# Altium integrated library Altera Cyclone.IntLib: 144 symbols (part 15 of 21)
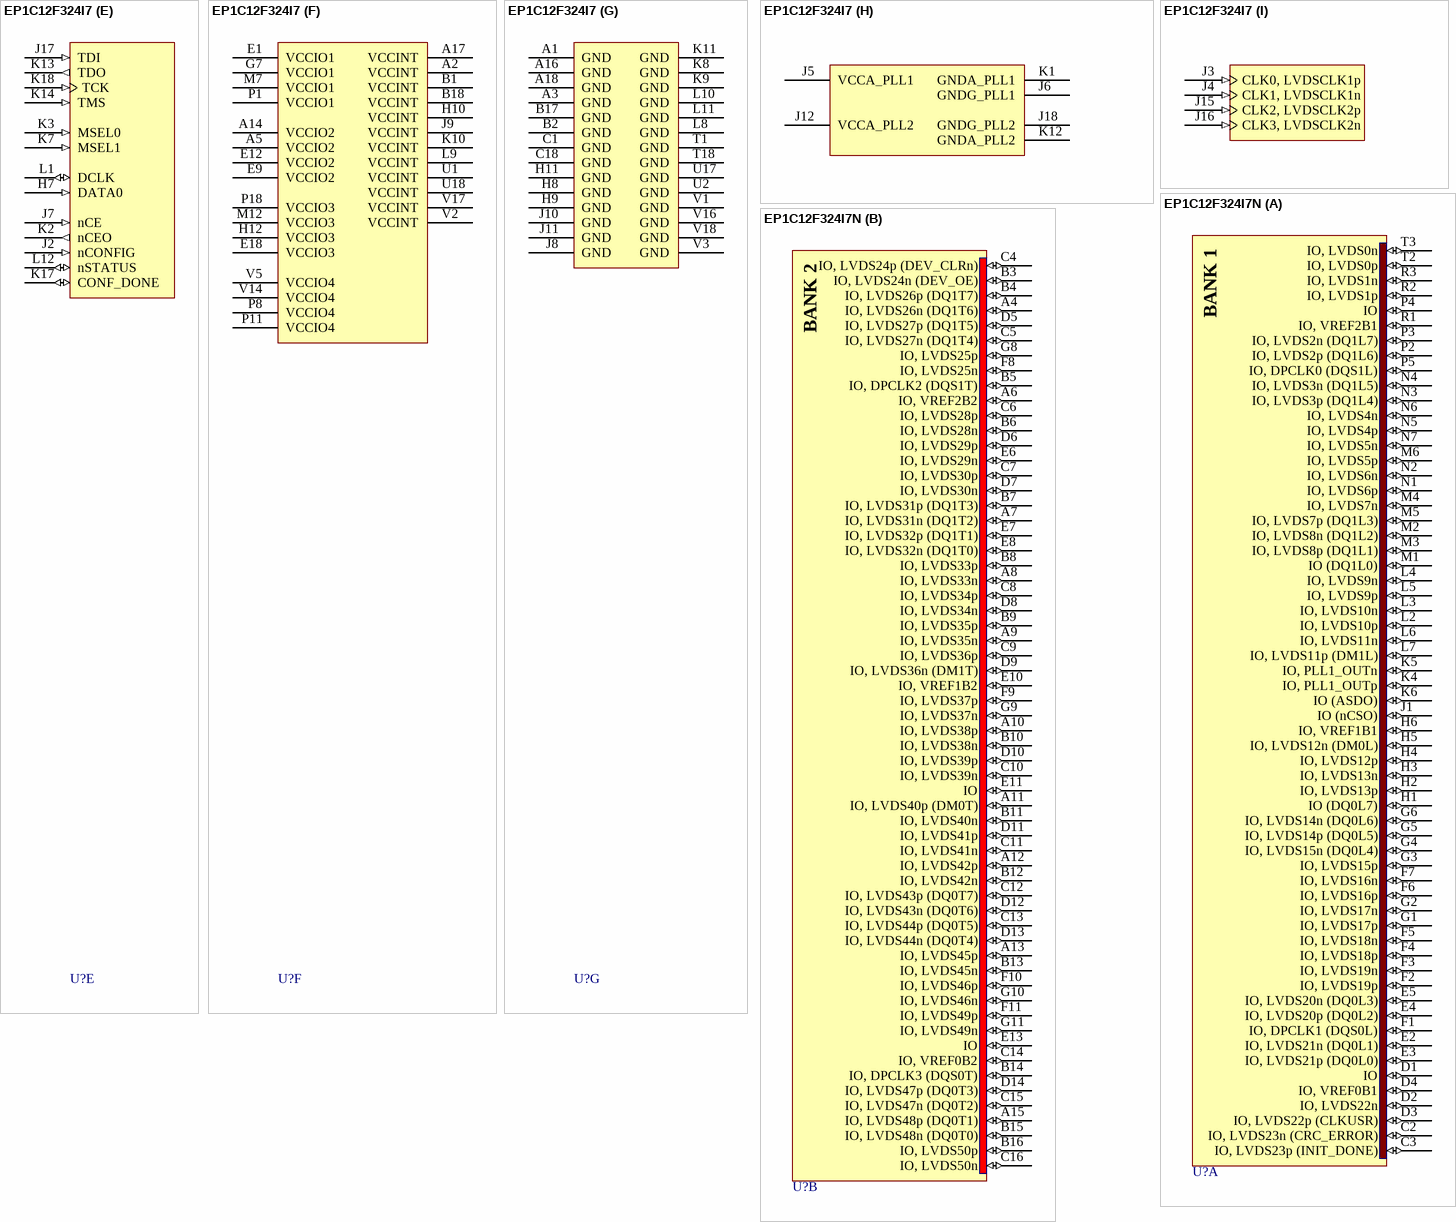
[diagram p167: symbols EP1C12F324I7 to EP1C12F324I7N]

## EP1C12F324I7
designator U?
Cyclone Family, 1.5V FPGA, 249 I/O Pins, 2 x PLLs, Industrial Grade, Speed Grade 7; DatasheetVersion: ver2.4, May-2008; PackageVersion: ver16.0, Dec-2009; PackageReference: FBGA324; PackageDescription: 324-Ball FineLine Ball Grid Array (FBGA324) - Wire Bond; Code_JEDEC: MS-034-AAG-1; Code_IPC: BGA100P18X18-324; ComponentLink1Description: Manufacturer URL; ComponentLink1URL: http://www.altera.com/; ComponentLink2Description: Handbook; ComponentLink2URL: http://www.altera.com/literature/hb/cyc/cyc_c5v1.pdf; ComponentLink3Description: Package Specification; ComponentLink3URL: http://www.altera.com/literature/ds/dspkg.pdf
footprint FBGA324 (BGA, 324-Leads, Body 19x19mm, Pitch 1mm)
part A pins: C2 IO, LVDS23n (CRC_ERROR) (io), C3 IO, LVDS23p (INIT_DONE) (io), D1 IO (io), D2 IO, LVDS22n (io), D3 IO, LVDS22p (CLKUSR) (io), D4 IO, VREF0B1 (io), E2 IO, LVDS21n (DQ0L1) (io), E3 IO, LVDS21p (DQ0L0) (io), E4 IO, LVDS20p (DQ0L2) (io), E5 IO, LVDS20n (DQ0L3) (io), F1 IO, DPCLK1 (DQS0L) (io), F2 IO, LVDS19p (io), F3 IO, LVDS19n (io), F4 IO, LVDS18p (io), F5 IO, LVDS18n (io), F6 IO, LVDS16p (io), F7 IO, LVDS16n (io), G1 IO, LVDS17p (io), G2 IO, LVDS17n (io), G3 IO, LVDS15p (io), G4 IO, LVDS15n (DQ0L4) (io), G5 IO, LVDS14p (DQ0L5) (io), G6 IO, LVDS14n (DQ0L6) (io), H1 IO (DQ0L7) (io), H2 IO, LVDS13p (io), H3 IO, LVDS13n (io), H4 IO, LVDS12p (io), H5 IO, LVDS12n (DM0L) (io), H6 IO, VREF1B1 (io), J1 IO (nCSO) (io), K4 IO, PLL1_OUTp (io), K5 IO, PLL1_OUTn (io), K6 IO (ASDO) (io), L2 IO, LVDS10p (io), L3 IO, LVDS10n (io), L4 IO, LVDS9n (io), L5 IO, LVDS9p (io), L6 IO, LVDS11n (io), L7 IO, LVDS11p (DM1L) (io), M1 IO (DQ1L0) (io), M2 IO, LVDS8n (DQ1L2) (io), M3 IO, LVDS8p (DQ1L1) (io), M4 IO, LVDS7n (io), M5 IO, LVDS7p (DQ1L3) (io), M6 IO, LVDS5p (io), N1 IO, LVDS6p (io), N2 IO, LVDS6n (io), N3 IO, LVDS3p (DQ1L4) (io), N4 IO, LVDS3n (DQ1L5) (io), N5 IO, LVDS4p (io), N6 IO, LVDS4n (io), N7 IO, LVDS5n (io), P2 IO, LVDS2p (DQ1L6) (io), P3 IO, LVDS2n (DQ1L7) (io), P4 IO (io), P5 IO, DPCLK0 (DQS1L) (io), R1 IO, VREF2B1 (io), R2 IO, LVDS1p (io), R3 IO, LVDS1n (io), T2 IO, LVDS0p (io), T3 IO, LVDS0n (io)
part B pins: A4 IO, LVDS26n (DQ1T6) (io), A6 IO, VREF2B2 (io), A7 IO, LVDS31n (DQ1T2) (io), A8 IO, LVDS33n (io), A9 IO, LVDS35n (io), A10 IO, LVDS38p (io), A11 IO, LVDS40p (DM0T) (io), A12 IO, LVDS42p (io), A13 IO, LVDS45p (io), A15 IO, LVDS48p (DQ0T1) (io), B3 IO, LVDS24n (DEV_OE) (io), B4 IO, LVDS26p (DQ1T7) (io), B5 IO, DPCLK2 (DQS1T) (io), B6 IO, LVDS28n (io), B7 IO, LVDS31p (DQ1T3) (io), B8 IO, LVDS33p (io), B9 IO, LVDS35p (io), B10 IO, LVDS38n (io), B11 IO, LVDS40n (io), B12 IO, LVDS42n (io), B13 IO, LVDS45n (io), B14 IO, DPCLK3 (DQS0T) (io), B15 IO, LVDS48n (DQ0T0) (io), B16 IO, LVDS50p (io), C4 IO, LVDS24p (DEV_CLRn) (io), C5 IO, LVDS27n (DQ1T4) (io), C6 IO, LVDS28p (io), C7 IO, LVDS30p (io), C8 IO, LVDS34p (io), C9 IO, LVDS36p (io), C10 IO, LVDS39n (io), C11 IO, LVDS41n (io), C12 IO, LVDS43p (DQ0T7) (io), C13 IO, LVDS44p (DQ0T5) (io), C14 IO, VREF0B2 (io), C15 IO, LVDS47n (DQ0T2) (io), C16 IO, LVDS50n (io), D5 IO, LVDS27p (DQ1T5) (io), D6 IO, LVDS29p (io), D7 IO, LVDS30n (io), D8 IO, LVDS34n (io), D9 IO, LVDS36n (DM1T) (io), D10 IO, LVDS39p (io), D11 IO, LVDS41p (io), D12 IO, LVDS43n (DQ0T6) (io), D13 IO, LVDS44n (DQ0T4) (io), D14 IO, LVDS47p (DQ0T3) (io), E6 IO, LVDS29n (io), E7 IO, LVDS32p (DQ1T1) (io), E8 IO, LVDS32n (DQ1T0) (io), E10 IO, VREF1B2 (io), E11 IO (io), E13 IO (io), F8 IO, LVDS25n (io), F9 IO, LVDS37p (io), F10 IO, LVDS46p (io), F11 IO, LVDS49p (io), G8 IO, LVDS25p (io), G9 IO, LVDS37n (io), G10 IO, LVDS46n (io), G11 IO, LVDS49n (io)
part C pins: C17 IO, LVDS51n (io), D15 IO, LVDS52p (io), D16 IO, LVDS52n (io), D17 IO, LVDS51p (io), D18 IO (DQ0R0) (io), E14 IO, VREF0B3 (io), E15 IO, LVDS53p (DQ0R1) (io), E16 IO, LVDS53n (DQ0R2) (io), E17 IO, DPCLK4 (DQS0R) (io), F12 IO, LVDS57p (io), F13 IO, LVDS55n (io), F14 IO, LVDS55p (io), F15 IO, LVDS54p (DQ0R3) (io), F16 IO, LVDS54n (io), F17 IO, LVDS56p (io), F18 IO, LVDS56n (io), G12 IO, LVDS57n (io), G13 IO, LVDS59n (DQ0R4) (io), G14 IO, LVDS59p (io), G15 IO, LVDS58n (io), G16 IO, LVDS58p (io), G17 IO, LVDS60p (DQ0R5) (io), G18 IO, LVDS60n (DQ0R6) (io), H13 IO, LVDS63p (DM0R) (io), H14 IO, LVDS62n (io), H15 IO, LVDS62p (io), H16 IO, LVDS61n (io), H17 IO, LVDS61p (io), H18 IO (DQ0R7) (io), J13 IO, LVDS63n (io), J14 IO, VREF1B3 (io), K15 IO, PLL2_OUTp (io), K16 IO, PLL2_OUTn (io), L13 IO, LVDS65p (io), L14 IO (io), L15 IO, LVDS64p (io), L16 IO, LVDS64n (DM1R) (io), L17 IO, LVDS66p (io), L18 IO, LVDS66n (io), M13 IO, LVDS65n (io), M14 IO, LVDS67n (DQ1R2) (io), M15 IO, LVDS67p (DQ1R1) (io), M16 IO (DQ1R0) (io), M17 IO, LVDS68p (DQ1R3) (io), M18 IO, LVDS68n (io), N12 IO, LVDS70p (io), N13 IO, LVDS70n (io), N14 IO, LVDS72p (DQ1R4) (io), N15 IO, LVDS69p (io), N16 IO, LVDS69n (io), N17 IO, LVDS71p (io), N18 IO, LVDS71n (io), P14 IO, LVDS72n (DQ1R5) (io), P15 IO, DPCLK5 (DQS1R) (io), P16 IO, VREF2B3 (io), P17 IO (DQ1R6) (io), R15 IO, LVDS73n (DQ1R7) (io), R16 IO, LVDS73p (io), R17 IO, LVDS74n (io), R18 IO, LVDS74p (io), T16 IO, LVDS75n (io), T17 IO, LVDS75p (io)
part D pins: M8 IO, LVDS101p (io), M9 IO, LVDS89p (io), M10 IO, LVDS80n (io), M11 IO, LVDS77n (io), N8 IO, LVDS101n (io), N9 IO, LVDS89n (io), N10 IO, LVDS80p (io), N11 IO, LVDS77p (io), P6 IO, LVDS97p (DQ1B4) (io), P7 IO, LVDS97n (io), P9 IO, VREF1B4 (io), P10 IO (io), P12 IO (io), P13 IO, VREF0B4 (io), R4 IO, DPCLK7 (DQS1B) (io), R5 IO, VREF2B4 (io), R6 IO, LVDS96n (io), R7 IO, LVDS94n (DQ1B0) (io), R8 IO, LVDS92n (io), R9 IO, LVDS90p (DM1B) (io), R10 IO, LVDS87n (io), R11 IO, LVDS86p (io), R12 IO, LVDS83n (DQ0B6) (io), R13 IO, LVDS81n (io), R14 IO, LVDS79n (DQ0B2) (io), T4 IO, LVDS100p (io), T5 IO, LVDS99p (DQ1B7) (io), T6 IO, LVDS96p (io), T7 IO, LVDS94p (DQ1B1) (io), T8 IO, LVDS92p (io), T9 IO, LVDS90n (io), T10 IO, LVDS87p (io), T11 IO, LVDS86n (io), T12 IO, LVDS83p (DQ0B7) (io), T13 IO, LVDS81p (io), T14 IO, LVDS79p (DQ0B3) (io), T15 IO, LVDS76n (io), U3 IO, LVDS102p (io), U4 IO, LVDS100n (io), U5 IO, LVDS99n (DQ1B6) (io), U6 IO, LVDS98n (DQ1B5) (io), U7 IO, LVDS95p (DQ1B3) (io), U8 IO, LVDS93p (io), U9 IO, LVDS91p (io), U10 IO, LVDS88p (io), U11 IO, LVDS85p (DM0B) (io), U12 IO, LVDS84n (io), U13 IO, LVDS82n (DQ0B4) (io), U14 IO, DPCLK6 (DQS0B) (io), U15 IO, LVDS78n (DQ0B0) (io), U16 IO, LVDS76p (io), V4 IO, LVDS102n (io), V6 IO, LVDS98p (io), V7 IO, LVDS95n (DQ1B2) (io), V8 IO, LVDS93n (io), V9 IO, LVDS91n (io), V10 IO, LVDS88n (io), V11 IO, LVDS85n (io), V12 IO, LVDS84p (io), V13 IO, LVDS82p (DQ0B5) (io), V15 IO, LVDS78p (DQ0B1) (io)
part E pins: H7 DATA0 (in), J2 nCONFIG (in), J7 nCE (in), J17 TDI (in), K2 nCEO (out), K3 MSEL0 (in), K7 MSEL1 (in), K13 TDO (out), K14 TMS (in), K17 CONF_DONE (io), K18 TCK (in), L1 DCLK (io), L12 nSTATUS (io)
part F pins: A2 VCCINT (power), A5 VCCIO2 (power), A14 VCCIO2 (power), A17 VCCINT (power), B1 VCCINT (power), B18 VCCINT (power), E1 VCCIO1 (power), E9 VCCIO2 (power), E12 VCCIO2 (power), E18 VCCIO3 (power), G7 VCCIO1 (power), H10 VCCINT (power), H12 VCCIO3 (power), J9 VCCINT (power), K10 VCCINT (power), L9 VCCINT (power), M7 VCCIO1 (power), M12 VCCIO3 (power), P1 VCCIO1 (power), P8 VCCIO4 (power), P11 VCCIO4 (power), P18 VCCIO3 (power), U1 VCCINT (power), U18 VCCINT (power), V2 VCCINT (power), V5 VCCIO4 (power), V14 VCCIO4 (power), V17 VCCINT (power)
part G pins: A1 GND (power), A3 GND (power), A16 GND (power), A18 GND (power), B2 GND (power), B17 GND (power), C1 GND (power), C18 GND (power), H8 GND (power), H9 GND (power), H11 GND (power), J8 GND (power), J10 GND (power), J11 GND (power), K8 GND (power), K9 GND (power), K11 GND (power), L8 GND (power), L10 GND (power), L11 GND (power), T1 GND (power), T18 GND (power), U2 GND (power), U17 GND (power), V1 GND (power), V3 GND (power), V16 GND (power), V18 GND (power)
part H pins: J5 VCCA_PLL1 (power), J6 GNDG_PLL1 (power), J12 VCCA_PLL2 (power), J18 GNDG_PLL2 (power), K1 GNDA_PLL1 (power), K12 GNDA_PLL2 (power)
part I pins: J3 CLK0, LVDSCLK1p (in), J4 CLK1, LVDSCLK1n (in), J15 CLK2, LVDSCLK2p (in), J16 CLK3, LVDSCLK2n (in)
part A text: BANK 1
part B text: BANK 2
part C text: BANK 3
part D text: BANK 4

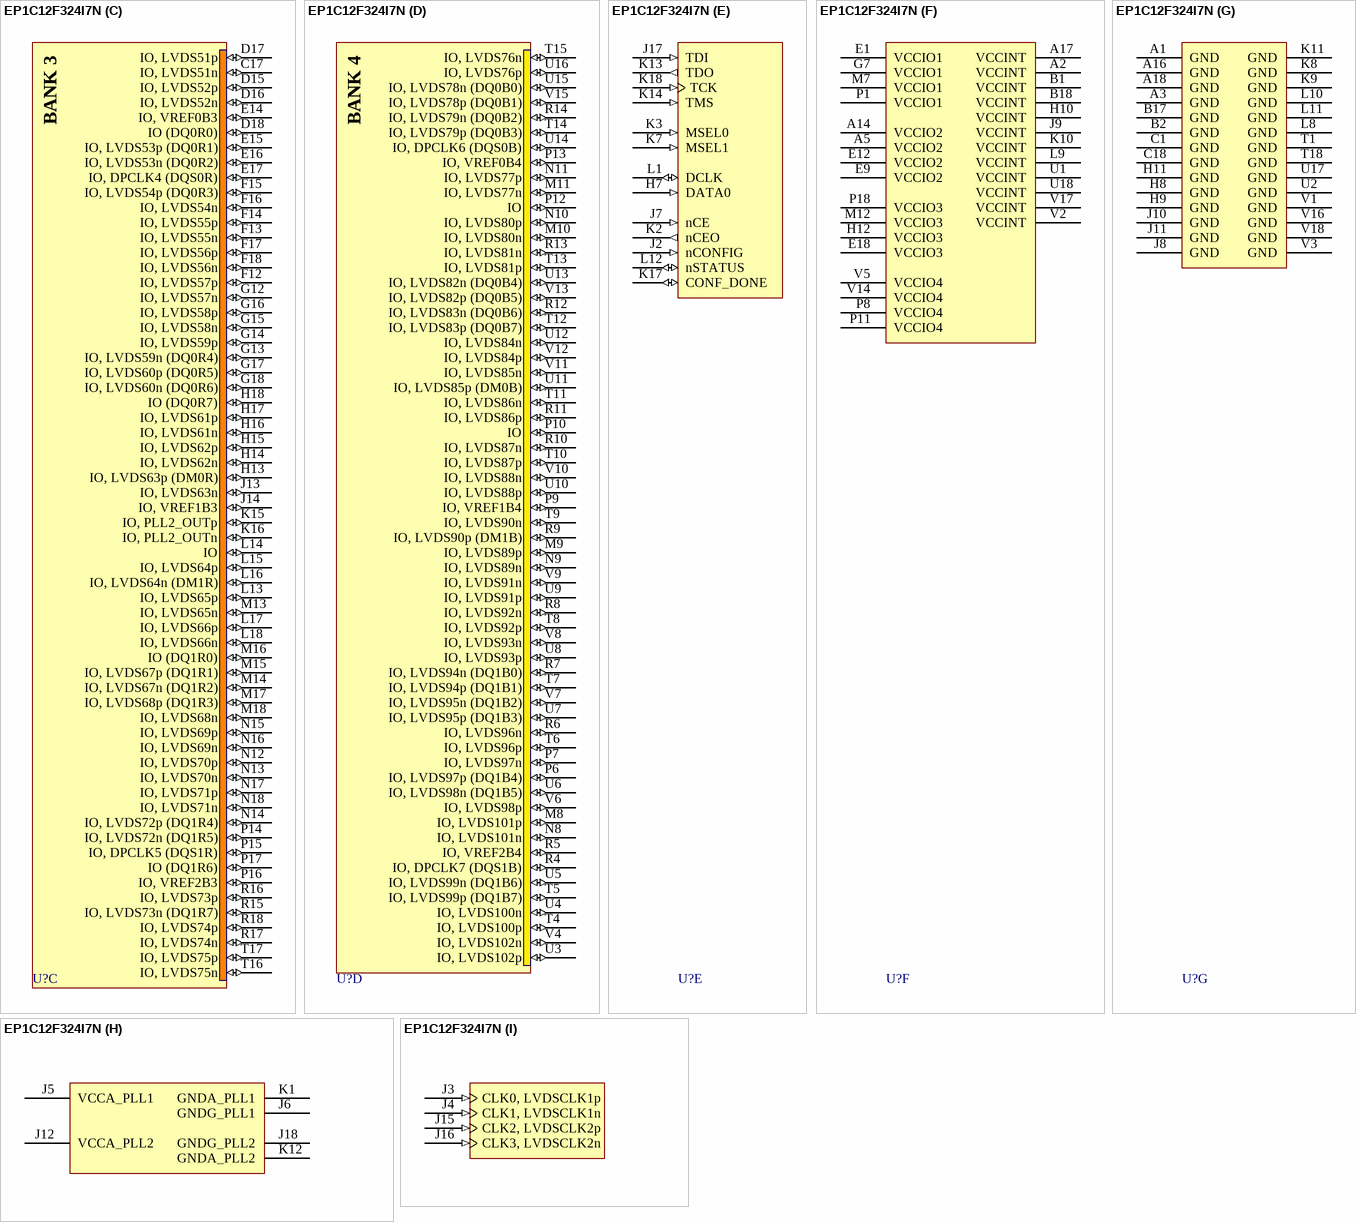
[diagram p105: symbol EP1C12F324I7N]

## EP1C12F324I7N
designator U?
Cyclone Family, 1.5V FPGA, 249 I/O Pins, 2 x PLLs, Industrial Grade, Speed Grade 7, Pb-Free; DatasheetVersion: ver2.4, May-2008; PackageVersion: ver16.0, Dec-2009; PackageReference: FBGA324; PackageDescription: 324-Ball FineLine Ball Grid Array (FBGA324) - Wire Bond; Code_JEDEC: MS-034-AAG-1; Code_IPC: BGA100P18X18-324; ComponentLink1Description: Manufacturer URL; ComponentLink1URL: http://www.altera.com/; ComponentLink2Description: Handbook; ComponentLink2URL: http://www.altera.com/literature/hb/cyc/cyc_c5v1.pdf; ComponentLink3Description: Package Specification; ComponentLink3URL: http://www.altera.com/literature/ds/dspkg.pdf
footprint FBGA324 (BGA, 324-Leads, Body 19x19mm, Pitch 1mm)
part A pins: C2 IO, LVDS23n (CRC_ERROR) (io), C3 IO, LVDS23p (INIT_DONE) (io), D1 IO (io), D2 IO, LVDS22n (io), D3 IO, LVDS22p (CLKUSR) (io), D4 IO, VREF0B1 (io), E2 IO, LVDS21n (DQ0L1) (io), E3 IO, LVDS21p (DQ0L0) (io), E4 IO, LVDS20p (DQ0L2) (io), E5 IO, LVDS20n (DQ0L3) (io), F1 IO, DPCLK1 (DQS0L) (io), F2 IO, LVDS19p (io), F3 IO, LVDS19n (io), F4 IO, LVDS18p (io), F5 IO, LVDS18n (io), F6 IO, LVDS16p (io), F7 IO, LVDS16n (io), G1 IO, LVDS17p (io), G2 IO, LVDS17n (io), G3 IO, LVDS15p (io), G4 IO, LVDS15n (DQ0L4) (io), G5 IO, LVDS14p (DQ0L5) (io), G6 IO, LVDS14n (DQ0L6) (io), H1 IO (DQ0L7) (io), H2 IO, LVDS13p (io), H3 IO, LVDS13n (io), H4 IO, LVDS12p (io), H5 IO, LVDS12n (DM0L) (io), H6 IO, VREF1B1 (io), J1 IO (nCSO) (io), K4 IO, PLL1_OUTp (io), K5 IO, PLL1_OUTn (io), K6 IO (ASDO) (io), L2 IO, LVDS10p (io), L3 IO, LVDS10n (io), L4 IO, LVDS9n (io), L5 IO, LVDS9p (io), L6 IO, LVDS11n (io), L7 IO, LVDS11p (DM1L) (io), M1 IO (DQ1L0) (io), M2 IO, LVDS8n (DQ1L2) (io), M3 IO, LVDS8p (DQ1L1) (io), M4 IO, LVDS7n (io), M5 IO, LVDS7p (DQ1L3) (io), M6 IO, LVDS5p (io), N1 IO, LVDS6p (io), N2 IO, LVDS6n (io), N3 IO, LVDS3p (DQ1L4) (io), N4 IO, LVDS3n (DQ1L5) (io), N5 IO, LVDS4p (io), N6 IO, LVDS4n (io), N7 IO, LVDS5n (io), P2 IO, LVDS2p (DQ1L6) (io), P3 IO, LVDS2n (DQ1L7) (io), P4 IO (io), P5 IO, DPCLK0 (DQS1L) (io), R1 IO, VREF2B1 (io), R2 IO, LVDS1p (io), R3 IO, LVDS1n (io), T2 IO, LVDS0p (io), T3 IO, LVDS0n (io)
part B pins: A4 IO, LVDS26n (DQ1T6) (io), A6 IO, VREF2B2 (io), A7 IO, LVDS31n (DQ1T2) (io), A8 IO, LVDS33n (io), A9 IO, LVDS35n (io), A10 IO, LVDS38p (io), A11 IO, LVDS40p (DM0T) (io), A12 IO, LVDS42p (io), A13 IO, LVDS45p (io), A15 IO, LVDS48p (DQ0T1) (io), B3 IO, LVDS24n (DEV_OE) (io), B4 IO, LVDS26p (DQ1T7) (io), B5 IO, DPCLK2 (DQS1T) (io), B6 IO, LVDS28n (io), B7 IO, LVDS31p (DQ1T3) (io), B8 IO, LVDS33p (io), B9 IO, LVDS35p (io), B10 IO, LVDS38n (io), B11 IO, LVDS40n (io), B12 IO, LVDS42n (io), B13 IO, LVDS45n (io), B14 IO, DPCLK3 (DQS0T) (io), B15 IO, LVDS48n (DQ0T0) (io), B16 IO, LVDS50p (io), C4 IO, LVDS24p (DEV_CLRn) (io), C5 IO, LVDS27n (DQ1T4) (io), C6 IO, LVDS28p (io), C7 IO, LVDS30p (io), C8 IO, LVDS34p (io), C9 IO, LVDS36p (io), C10 IO, LVDS39n (io), C11 IO, LVDS41n (io), C12 IO, LVDS43p (DQ0T7) (io), C13 IO, LVDS44p (DQ0T5) (io), C14 IO, VREF0B2 (io), C15 IO, LVDS47n (DQ0T2) (io), C16 IO, LVDS50n (io), D5 IO, LVDS27p (DQ1T5) (io), D6 IO, LVDS29p (io), D7 IO, LVDS30n (io), D8 IO, LVDS34n (io), D9 IO, LVDS36n (DM1T) (io), D10 IO, LVDS39p (io), D11 IO, LVDS41p (io), D12 IO, LVDS43n (DQ0T6) (io), D13 IO, LVDS44n (DQ0T4) (io), D14 IO, LVDS47p (DQ0T3) (io), E6 IO, LVDS29n (io), E7 IO, LVDS32p (DQ1T1) (io), E8 IO, LVDS32n (DQ1T0) (io), E10 IO, VREF1B2 (io), E11 IO (io), E13 IO (io), F8 IO, LVDS25n (io), F9 IO, LVDS37p (io), F10 IO, LVDS46p (io), F11 IO, LVDS49p (io), G8 IO, LVDS25p (io), G9 IO, LVDS37n (io), G10 IO, LVDS46n (io), G11 IO, LVDS49n (io)
part C pins: C17 IO, LVDS51n (io), D15 IO, LVDS52p (io), D16 IO, LVDS52n (io), D17 IO, LVDS51p (io), D18 IO (DQ0R0) (io), E14 IO, VREF0B3 (io), E15 IO, LVDS53p (DQ0R1) (io), E16 IO, LVDS53n (DQ0R2) (io), E17 IO, DPCLK4 (DQS0R) (io), F12 IO, LVDS57p (io), F13 IO, LVDS55n (io), F14 IO, LVDS55p (io), F15 IO, LVDS54p (DQ0R3) (io), F16 IO, LVDS54n (io), F17 IO, LVDS56p (io), F18 IO, LVDS56n (io), G12 IO, LVDS57n (io), G13 IO, LVDS59n (DQ0R4) (io), G14 IO, LVDS59p (io), G15 IO, LVDS58n (io), G16 IO, LVDS58p (io), G17 IO, LVDS60p (DQ0R5) (io), G18 IO, LVDS60n (DQ0R6) (io), H13 IO, LVDS63p (DM0R) (io), H14 IO, LVDS62n (io), H15 IO, LVDS62p (io), H16 IO, LVDS61n (io), H17 IO, LVDS61p (io), H18 IO (DQ0R7) (io), J13 IO, LVDS63n (io), J14 IO, VREF1B3 (io), K15 IO, PLL2_OUTp (io), K16 IO, PLL2_OUTn (io), L13 IO, LVDS65p (io), L14 IO (io), L15 IO, LVDS64p (io), L16 IO, LVDS64n (DM1R) (io), L17 IO, LVDS66p (io), L18 IO, LVDS66n (io), M13 IO, LVDS65n (io), M14 IO, LVDS67n (DQ1R2) (io), M15 IO, LVDS67p (DQ1R1) (io), M16 IO (DQ1R0) (io), M17 IO, LVDS68p (DQ1R3) (io), M18 IO, LVDS68n (io), N12 IO, LVDS70p (io), N13 IO, LVDS70n (io), N14 IO, LVDS72p (DQ1R4) (io), N15 IO, LVDS69p (io), N16 IO, LVDS69n (io), N17 IO, LVDS71p (io), N18 IO, LVDS71n (io), P14 IO, LVDS72n (DQ1R5) (io), P15 IO, DPCLK5 (DQS1R) (io), P16 IO, VREF2B3 (io), P17 IO (DQ1R6) (io), R15 IO, LVDS73n (DQ1R7) (io), R16 IO, LVDS73p (io), R17 IO, LVDS74n (io), R18 IO, LVDS74p (io), T16 IO, LVDS75n (io), T17 IO, LVDS75p (io)
part D pins: M8 IO, LVDS101p (io), M9 IO, LVDS89p (io), M10 IO, LVDS80n (io), M11 IO, LVDS77n (io), N8 IO, LVDS101n (io), N9 IO, LVDS89n (io), N10 IO, LVDS80p (io), N11 IO, LVDS77p (io), P6 IO, LVDS97p (DQ1B4) (io), P7 IO, LVDS97n (io), P9 IO, VREF1B4 (io), P10 IO (io), P12 IO (io), P13 IO, VREF0B4 (io), R4 IO, DPCLK7 (DQS1B) (io), R5 IO, VREF2B4 (io), R6 IO, LVDS96n (io), R7 IO, LVDS94n (DQ1B0) (io), R8 IO, LVDS92n (io), R9 IO, LVDS90p (DM1B) (io), R10 IO, LVDS87n (io), R11 IO, LVDS86p (io), R12 IO, LVDS83n (DQ0B6) (io), R13 IO, LVDS81n (io), R14 IO, LVDS79n (DQ0B2) (io), T4 IO, LVDS100p (io), T5 IO, LVDS99p (DQ1B7) (io), T6 IO, LVDS96p (io), T7 IO, LVDS94p (DQ1B1) (io), T8 IO, LVDS92p (io), T9 IO, LVDS90n (io), T10 IO, LVDS87p (io), T11 IO, LVDS86n (io), T12 IO, LVDS83p (DQ0B7) (io), T13 IO, LVDS81p (io), T14 IO, LVDS79p (DQ0B3) (io), T15 IO, LVDS76n (io), U3 IO, LVDS102p (io), U4 IO, LVDS100n (io), U5 IO, LVDS99n (DQ1B6) (io), U6 IO, LVDS98n (DQ1B5) (io), U7 IO, LVDS95p (DQ1B3) (io), U8 IO, LVDS93p (io), U9 IO, LVDS91p (io), U10 IO, LVDS88p (io), U11 IO, LVDS85p (DM0B) (io), U12 IO, LVDS84n (io), U13 IO, LVDS82n (DQ0B4) (io), U14 IO, DPCLK6 (DQS0B) (io), U15 IO, LVDS78n (DQ0B0) (io), U16 IO, LVDS76p (io), V4 IO, LVDS102n (io), V6 IO, LVDS98p (io), V7 IO, LVDS95n (DQ1B2) (io), V8 IO, LVDS93n (io), V9 IO, LVDS91n (io), V10 IO, LVDS88n (io), V11 IO, LVDS85n (io), V12 IO, LVDS84p (io), V13 IO, LVDS82p (DQ0B5) (io), V15 IO, LVDS78p (DQ0B1) (io)
part E pins: H7 DATA0 (in), J2 nCONFIG (in), J7 nCE (in), J17 TDI (in), K2 nCEO (out), K3 MSEL0 (in), K7 MSEL1 (in), K13 TDO (out), K14 TMS (in), K17 CONF_DONE (io), K18 TCK (in), L1 DCLK (io), L12 nSTATUS (io)
part F pins: A2 VCCINT (power), A5 VCCIO2 (power), A14 VCCIO2 (power), A17 VCCINT (power), B1 VCCINT (power), B18 VCCINT (power), E1 VCCIO1 (power), E9 VCCIO2 (power), E12 VCCIO2 (power), E18 VCCIO3 (power), G7 VCCIO1 (power), H10 VCCINT (power), H12 VCCIO3 (power), J9 VCCINT (power), K10 VCCINT (power), L9 VCCINT (power), M7 VCCIO1 (power), M12 VCCIO3 (power), P1 VCCIO1 (power), P8 VCCIO4 (power), P11 VCCIO4 (power), P18 VCCIO3 (power), U1 VCCINT (power), U18 VCCINT (power), V2 VCCINT (power), V5 VCCIO4 (power), V14 VCCIO4 (power), V17 VCCINT (power)
part G pins: A1 GND (power), A3 GND (power), A16 GND (power), A18 GND (power), B2 GND (power), B17 GND (power), C1 GND (power), C18 GND (power), H8 GND (power), H9 GND (power), H11 GND (power), J8 GND (power), J10 GND (power), J11 GND (power), K8 GND (power), K9 GND (power), K11 GND (power), L8 GND (power), L10 GND (power), L11 GND (power), T1 GND (power), T18 GND (power), U2 GND (power), U17 GND (power), V1 GND (power), V3 GND (power), V16 GND (power), V18 GND (power)
part H pins: J5 VCCA_PLL1 (power), J6 GNDG_PLL1 (power), J12 VCCA_PLL2 (power), J18 GNDG_PLL2 (power), K1 GNDA_PLL1 (power), K12 GNDA_PLL2 (power)
part I pins: J3 CLK0, LVDSCLK1p (in), J4 CLK1, LVDSCLK1n (in), J15 CLK2, LVDSCLK2p (in), J16 CLK3, LVDSCLK2n (in)
part A text: BANK 1
part B text: BANK 2
part C text: BANK 3
part D text: BANK 4

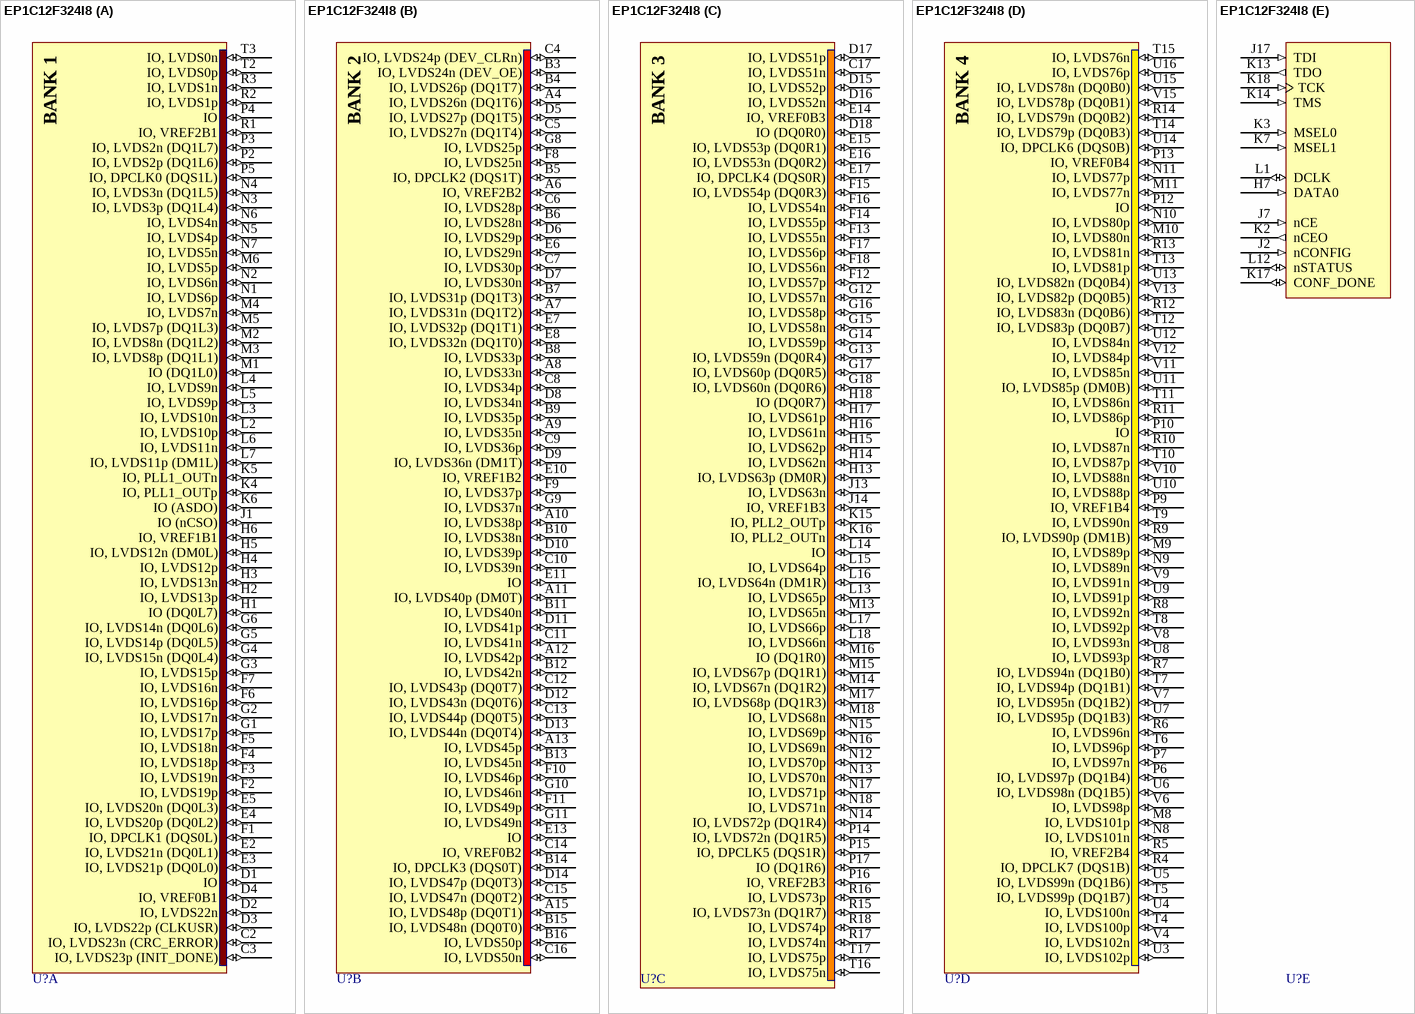
[diagram p106: symbol EP1C12F324I8]

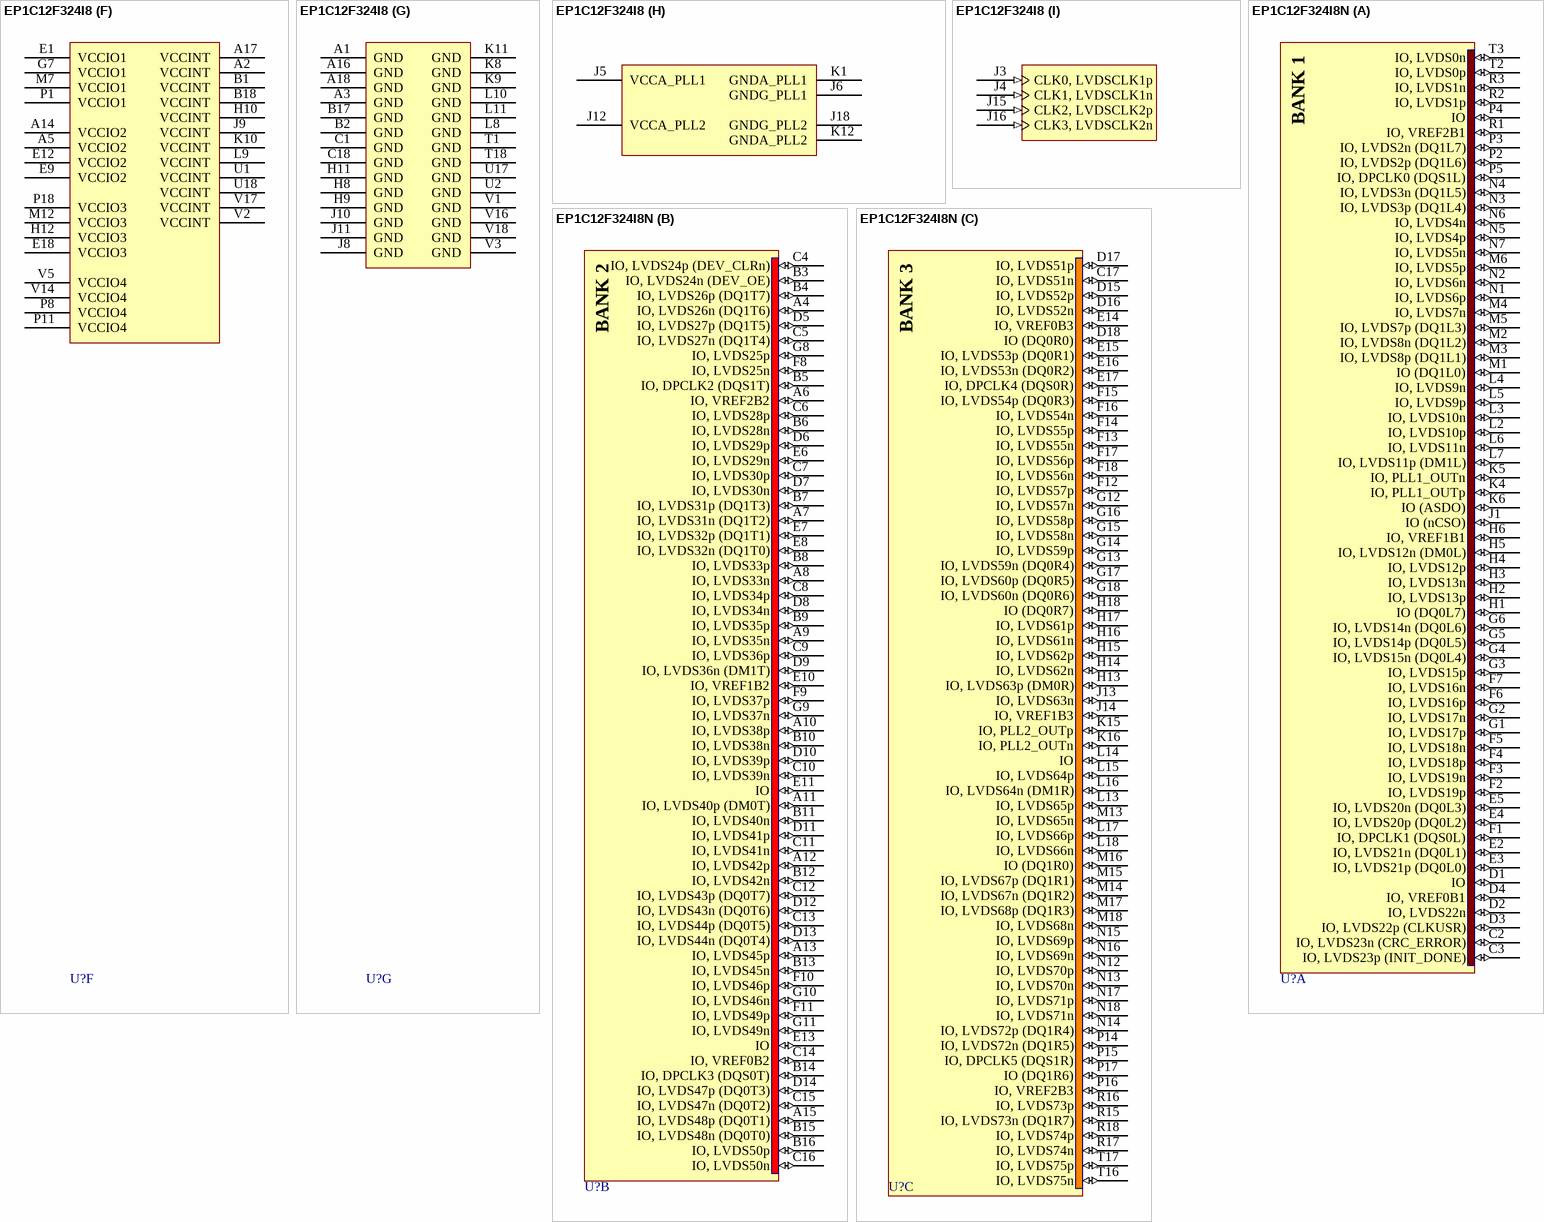
[diagram p107: symbols EP1C12F324I8 to EP1C12F324I8N]

## EP1C12F324I8
designator U?
Cyclone Family, 1.5V FPGA, 249 I/O Pins, 2 x PLLs, Industrial Grade, Speed Grade 8; DatasheetVersion: ver2.4, May-2008; PackageVersion: ver16.0, Dec-2009; PackageReference: FBGA324; PackageDescription: 324-Ball FineLine Ball Grid Array (FBGA324) - Wire Bond; Code_JEDEC: MS-034-AAG-1; Code_IPC: BGA100P18X18-324; ComponentLink1Description: Manufacturer URL; ComponentLink1URL: http://www.altera.com/; ComponentLink2Description: Handbook; ComponentLink2URL: http://www.altera.com/literature/hb/cyc/cyc_c5v1.pdf; ComponentLink3Description: Package Specification; ComponentLink3URL: http://www.altera.com/literature/ds/dspkg.pdf
footprint FBGA324 (BGA, 324-Leads, Body 19x19mm, Pitch 1mm)
part A pins: C2 IO, LVDS23n (CRC_ERROR) (io), C3 IO, LVDS23p (INIT_DONE) (io), D1 IO (io), D2 IO, LVDS22n (io), D3 IO, LVDS22p (CLKUSR) (io), D4 IO, VREF0B1 (io), E2 IO, LVDS21n (DQ0L1) (io), E3 IO, LVDS21p (DQ0L0) (io), E4 IO, LVDS20p (DQ0L2) (io), E5 IO, LVDS20n (DQ0L3) (io), F1 IO, DPCLK1 (DQS0L) (io), F2 IO, LVDS19p (io), F3 IO, LVDS19n (io), F4 IO, LVDS18p (io), F5 IO, LVDS18n (io), F6 IO, LVDS16p (io), F7 IO, LVDS16n (io), G1 IO, LVDS17p (io), G2 IO, LVDS17n (io), G3 IO, LVDS15p (io), G4 IO, LVDS15n (DQ0L4) (io), G5 IO, LVDS14p (DQ0L5) (io), G6 IO, LVDS14n (DQ0L6) (io), H1 IO (DQ0L7) (io), H2 IO, LVDS13p (io), H3 IO, LVDS13n (io), H4 IO, LVDS12p (io), H5 IO, LVDS12n (DM0L) (io), H6 IO, VREF1B1 (io), J1 IO (nCSO) (io), K4 IO, PLL1_OUTp (io), K5 IO, PLL1_OUTn (io), K6 IO (ASDO) (io), L2 IO, LVDS10p (io), L3 IO, LVDS10n (io), L4 IO, LVDS9n (io), L5 IO, LVDS9p (io), L6 IO, LVDS11n (io), L7 IO, LVDS11p (DM1L) (io), M1 IO (DQ1L0) (io), M2 IO, LVDS8n (DQ1L2) (io), M3 IO, LVDS8p (DQ1L1) (io), M4 IO, LVDS7n (io), M5 IO, LVDS7p (DQ1L3) (io), M6 IO, LVDS5p (io), N1 IO, LVDS6p (io), N2 IO, LVDS6n (io), N3 IO, LVDS3p (DQ1L4) (io), N4 IO, LVDS3n (DQ1L5) (io), N5 IO, LVDS4p (io), N6 IO, LVDS4n (io), N7 IO, LVDS5n (io), P2 IO, LVDS2p (DQ1L6) (io), P3 IO, LVDS2n (DQ1L7) (io), P4 IO (io), P5 IO, DPCLK0 (DQS1L) (io), R1 IO, VREF2B1 (io), R2 IO, LVDS1p (io), R3 IO, LVDS1n (io), T2 IO, LVDS0p (io), T3 IO, LVDS0n (io)
part B pins: A4 IO, LVDS26n (DQ1T6) (io), A6 IO, VREF2B2 (io), A7 IO, LVDS31n (DQ1T2) (io), A8 IO, LVDS33n (io), A9 IO, LVDS35n (io), A10 IO, LVDS38p (io), A11 IO, LVDS40p (DM0T) (io), A12 IO, LVDS42p (io), A13 IO, LVDS45p (io), A15 IO, LVDS48p (DQ0T1) (io), B3 IO, LVDS24n (DEV_OE) (io), B4 IO, LVDS26p (DQ1T7) (io), B5 IO, DPCLK2 (DQS1T) (io), B6 IO, LVDS28n (io), B7 IO, LVDS31p (DQ1T3) (io), B8 IO, LVDS33p (io), B9 IO, LVDS35p (io), B10 IO, LVDS38n (io), B11 IO, LVDS40n (io), B12 IO, LVDS42n (io), B13 IO, LVDS45n (io), B14 IO, DPCLK3 (DQS0T) (io), B15 IO, LVDS48n (DQ0T0) (io), B16 IO, LVDS50p (io), C4 IO, LVDS24p (DEV_CLRn) (io), C5 IO, LVDS27n (DQ1T4) (io), C6 IO, LVDS28p (io), C7 IO, LVDS30p (io), C8 IO, LVDS34p (io), C9 IO, LVDS36p (io), C10 IO, LVDS39n (io), C11 IO, LVDS41n (io), C12 IO, LVDS43p (DQ0T7) (io), C13 IO, LVDS44p (DQ0T5) (io), C14 IO, VREF0B2 (io), C15 IO, LVDS47n (DQ0T2) (io), C16 IO, LVDS50n (io), D5 IO, LVDS27p (DQ1T5) (io), D6 IO, LVDS29p (io), D7 IO, LVDS30n (io), D8 IO, LVDS34n (io), D9 IO, LVDS36n (DM1T) (io), D10 IO, LVDS39p (io), D11 IO, LVDS41p (io), D12 IO, LVDS43n (DQ0T6) (io), D13 IO, LVDS44n (DQ0T4) (io), D14 IO, LVDS47p (DQ0T3) (io), E6 IO, LVDS29n (io), E7 IO, LVDS32p (DQ1T1) (io), E8 IO, LVDS32n (DQ1T0) (io), E10 IO, VREF1B2 (io), E11 IO (io), E13 IO (io), F8 IO, LVDS25n (io), F9 IO, LVDS37p (io), F10 IO, LVDS46p (io), F11 IO, LVDS49p (io), G8 IO, LVDS25p (io), G9 IO, LVDS37n (io), G10 IO, LVDS46n (io), G11 IO, LVDS49n (io)
part C pins: C17 IO, LVDS51n (io), D15 IO, LVDS52p (io), D16 IO, LVDS52n (io), D17 IO, LVDS51p (io), D18 IO (DQ0R0) (io), E14 IO, VREF0B3 (io), E15 IO, LVDS53p (DQ0R1) (io), E16 IO, LVDS53n (DQ0R2) (io), E17 IO, DPCLK4 (DQS0R) (io), F12 IO, LVDS57p (io), F13 IO, LVDS55n (io), F14 IO, LVDS55p (io), F15 IO, LVDS54p (DQ0R3) (io), F16 IO, LVDS54n (io), F17 IO, LVDS56p (io), F18 IO, LVDS56n (io), G12 IO, LVDS57n (io), G13 IO, LVDS59n (DQ0R4) (io), G14 IO, LVDS59p (io), G15 IO, LVDS58n (io), G16 IO, LVDS58p (io), G17 IO, LVDS60p (DQ0R5) (io), G18 IO, LVDS60n (DQ0R6) (io), H13 IO, LVDS63p (DM0R) (io), H14 IO, LVDS62n (io), H15 IO, LVDS62p (io), H16 IO, LVDS61n (io), H17 IO, LVDS61p (io), H18 IO (DQ0R7) (io), J13 IO, LVDS63n (io), J14 IO, VREF1B3 (io), K15 IO, PLL2_OUTp (io), K16 IO, PLL2_OUTn (io), L13 IO, LVDS65p (io), L14 IO (io), L15 IO, LVDS64p (io), L16 IO, LVDS64n (DM1R) (io), L17 IO, LVDS66p (io), L18 IO, LVDS66n (io), M13 IO, LVDS65n (io), M14 IO, LVDS67n (DQ1R2) (io), M15 IO, LVDS67p (DQ1R1) (io), M16 IO (DQ1R0) (io), M17 IO, LVDS68p (DQ1R3) (io), M18 IO, LVDS68n (io), N12 IO, LVDS70p (io), N13 IO, LVDS70n (io), N14 IO, LVDS72p (DQ1R4) (io), N15 IO, LVDS69p (io), N16 IO, LVDS69n (io), N17 IO, LVDS71p (io), N18 IO, LVDS71n (io), P14 IO, LVDS72n (DQ1R5) (io), P15 IO, DPCLK5 (DQS1R) (io), P16 IO, VREF2B3 (io), P17 IO (DQ1R6) (io), R15 IO, LVDS73n (DQ1R7) (io), R16 IO, LVDS73p (io), R17 IO, LVDS74n (io), R18 IO, LVDS74p (io), T16 IO, LVDS75n (io), T17 IO, LVDS75p (io)
part D pins: M8 IO, LVDS101p (io), M9 IO, LVDS89p (io), M10 IO, LVDS80n (io), M11 IO, LVDS77n (io), N8 IO, LVDS101n (io), N9 IO, LVDS89n (io), N10 IO, LVDS80p (io), N11 IO, LVDS77p (io), P6 IO, LVDS97p (DQ1B4) (io), P7 IO, LVDS97n (io), P9 IO, VREF1B4 (io), P10 IO (io), P12 IO (io), P13 IO, VREF0B4 (io), R4 IO, DPCLK7 (DQS1B) (io), R5 IO, VREF2B4 (io), R6 IO, LVDS96n (io), R7 IO, LVDS94n (DQ1B0) (io), R8 IO, LVDS92n (io), R9 IO, LVDS90p (DM1B) (io), R10 IO, LVDS87n (io), R11 IO, LVDS86p (io), R12 IO, LVDS83n (DQ0B6) (io), R13 IO, LVDS81n (io), R14 IO, LVDS79n (DQ0B2) (io), T4 IO, LVDS100p (io), T5 IO, LVDS99p (DQ1B7) (io), T6 IO, LVDS96p (io), T7 IO, LVDS94p (DQ1B1) (io), T8 IO, LVDS92p (io), T9 IO, LVDS90n (io), T10 IO, LVDS87p (io), T11 IO, LVDS86n (io), T12 IO, LVDS83p (DQ0B7) (io), T13 IO, LVDS81p (io), T14 IO, LVDS79p (DQ0B3) (io), T15 IO, LVDS76n (io), U3 IO, LVDS102p (io), U4 IO, LVDS100n (io), U5 IO, LVDS99n (DQ1B6) (io), U6 IO, LVDS98n (DQ1B5) (io), U7 IO, LVDS95p (DQ1B3) (io), U8 IO, LVDS93p (io), U9 IO, LVDS91p (io), U10 IO, LVDS88p (io), U11 IO, LVDS85p (DM0B) (io), U12 IO, LVDS84n (io), U13 IO, LVDS82n (DQ0B4) (io), U14 IO, DPCLK6 (DQS0B) (io), U15 IO, LVDS78n (DQ0B0) (io), U16 IO, LVDS76p (io), V4 IO, LVDS102n (io), V6 IO, LVDS98p (io), V7 IO, LVDS95n (DQ1B2) (io), V8 IO, LVDS93n (io), V9 IO, LVDS91n (io), V10 IO, LVDS88n (io), V11 IO, LVDS85n (io), V12 IO, LVDS84p (io), V13 IO, LVDS82p (DQ0B5) (io), V15 IO, LVDS78p (DQ0B1) (io)
part E pins: H7 DATA0 (in), J2 nCONFIG (in), J7 nCE (in), J17 TDI (in), K2 nCEO (out), K3 MSEL0 (in), K7 MSEL1 (in), K13 TDO (out), K14 TMS (in), K17 CONF_DONE (io), K18 TCK (in), L1 DCLK (io), L12 nSTATUS (io)
part F pins: A2 VCCINT (power), A5 VCCIO2 (power), A14 VCCIO2 (power), A17 VCCINT (power), B1 VCCINT (power), B18 VCCINT (power), E1 VCCIO1 (power), E9 VCCIO2 (power), E12 VCCIO2 (power), E18 VCCIO3 (power), G7 VCCIO1 (power), H10 VCCINT (power), H12 VCCIO3 (power), J9 VCCINT (power), K10 VCCINT (power), L9 VCCINT (power), M7 VCCIO1 (power), M12 VCCIO3 (power), P1 VCCIO1 (power), P8 VCCIO4 (power), P11 VCCIO4 (power), P18 VCCIO3 (power), U1 VCCINT (power), U18 VCCINT (power), V2 VCCINT (power), V5 VCCIO4 (power), V14 VCCIO4 (power), V17 VCCINT (power)
part G pins: A1 GND (power), A3 GND (power), A16 GND (power), A18 GND (power), B2 GND (power), B17 GND (power), C1 GND (power), C18 GND (power), H8 GND (power), H9 GND (power), H11 GND (power), J8 GND (power), J10 GND (power), J11 GND (power), K8 GND (power), K9 GND (power), K11 GND (power), L8 GND (power), L10 GND (power), L11 GND (power), T1 GND (power), T18 GND (power), U2 GND (power), U17 GND (power), V1 GND (power), V3 GND (power), V16 GND (power), V18 GND (power)
part H pins: J5 VCCA_PLL1 (power), J6 GNDG_PLL1 (power), J12 VCCA_PLL2 (power), J18 GNDG_PLL2 (power), K1 GNDA_PLL1 (power), K12 GNDA_PLL2 (power)
part I pins: J3 CLK0, LVDSCLK1p (in), J4 CLK1, LVDSCLK1n (in), J15 CLK2, LVDSCLK2p (in), J16 CLK3, LVDSCLK2n (in)
part A text: BANK 1
part B text: BANK 2
part C text: BANK 3
part D text: BANK 4

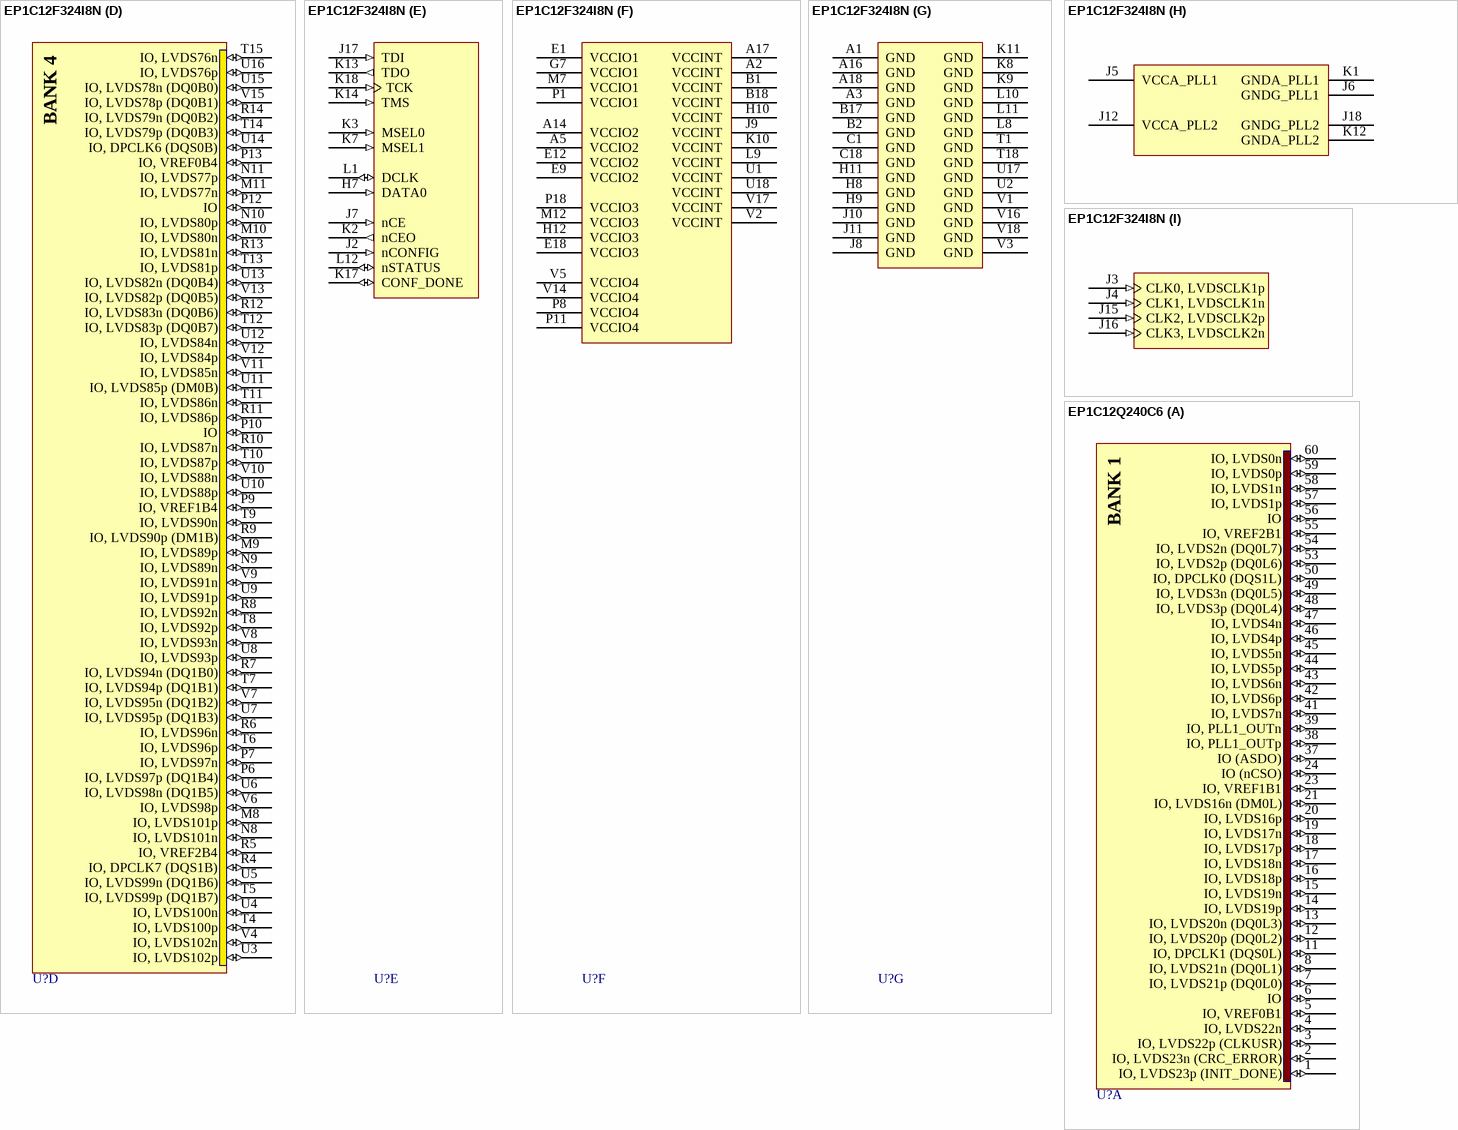
[diagram p108: symbols EP1C12F324I8N to EP1C12Q240C6]

## EP1C12F324I8N
designator U?
Cyclone Family, 1.5V FPGA, 249 I/O Pins, 2 x PLLs, Industrial Grade, Speed Grade 8, Pb-Free; DatasheetVersion: ver2.4, May-2008; PackageVersion: ver16.0, Dec-2009; PackageReference: FBGA324; PackageDescription: 324-Ball FineLine Ball Grid Array (FBGA324) - Wire Bond; Code_JEDEC: MS-034-AAG-1; Code_IPC: BGA100P18X18-324; ComponentLink1Description: Manufacturer URL; ComponentLink1URL: http://www.altera.com/; ComponentLink2Description: Handbook; ComponentLink2URL: http://www.altera.com/literature/hb/cyc/cyc_c5v1.pdf; ComponentLink3Description: Package Specification; ComponentLink3URL: http://www.altera.com/literature/ds/dspkg.pdf
footprint FBGA324 (BGA, 324-Leads, Body 19x19mm, Pitch 1mm)
part A pins: C2 IO, LVDS23n (CRC_ERROR) (io), C3 IO, LVDS23p (INIT_DONE) (io), D1 IO (io), D2 IO, LVDS22n (io), D3 IO, LVDS22p (CLKUSR) (io), D4 IO, VREF0B1 (io), E2 IO, LVDS21n (DQ0L1) (io), E3 IO, LVDS21p (DQ0L0) (io), E4 IO, LVDS20p (DQ0L2) (io), E5 IO, LVDS20n (DQ0L3) (io), F1 IO, DPCLK1 (DQS0L) (io), F2 IO, LVDS19p (io), F3 IO, LVDS19n (io), F4 IO, LVDS18p (io), F5 IO, LVDS18n (io), F6 IO, LVDS16p (io), F7 IO, LVDS16n (io), G1 IO, LVDS17p (io), G2 IO, LVDS17n (io), G3 IO, LVDS15p (io), G4 IO, LVDS15n (DQ0L4) (io), G5 IO, LVDS14p (DQ0L5) (io), G6 IO, LVDS14n (DQ0L6) (io), H1 IO (DQ0L7) (io), H2 IO, LVDS13p (io), H3 IO, LVDS13n (io), H4 IO, LVDS12p (io), H5 IO, LVDS12n (DM0L) (io), H6 IO, VREF1B1 (io), J1 IO (nCSO) (io), K4 IO, PLL1_OUTp (io), K5 IO, PLL1_OUTn (io), K6 IO (ASDO) (io), L2 IO, LVDS10p (io), L3 IO, LVDS10n (io), L4 IO, LVDS9n (io), L5 IO, LVDS9p (io), L6 IO, LVDS11n (io), L7 IO, LVDS11p (DM1L) (io), M1 IO (DQ1L0) (io), M2 IO, LVDS8n (DQ1L2) (io), M3 IO, LVDS8p (DQ1L1) (io), M4 IO, LVDS7n (io), M5 IO, LVDS7p (DQ1L3) (io), M6 IO, LVDS5p (io), N1 IO, LVDS6p (io), N2 IO, LVDS6n (io), N3 IO, LVDS3p (DQ1L4) (io), N4 IO, LVDS3n (DQ1L5) (io), N5 IO, LVDS4p (io), N6 IO, LVDS4n (io), N7 IO, LVDS5n (io), P2 IO, LVDS2p (DQ1L6) (io), P3 IO, LVDS2n (DQ1L7) (io), P4 IO (io), P5 IO, DPCLK0 (DQS1L) (io), R1 IO, VREF2B1 (io), R2 IO, LVDS1p (io), R3 IO, LVDS1n (io), T2 IO, LVDS0p (io), T3 IO, LVDS0n (io)
part B pins: A4 IO, LVDS26n (DQ1T6) (io), A6 IO, VREF2B2 (io), A7 IO, LVDS31n (DQ1T2) (io), A8 IO, LVDS33n (io), A9 IO, LVDS35n (io), A10 IO, LVDS38p (io), A11 IO, LVDS40p (DM0T) (io), A12 IO, LVDS42p (io), A13 IO, LVDS45p (io), A15 IO, LVDS48p (DQ0T1) (io), B3 IO, LVDS24n (DEV_OE) (io), B4 IO, LVDS26p (DQ1T7) (io), B5 IO, DPCLK2 (DQS1T) (io), B6 IO, LVDS28n (io), B7 IO, LVDS31p (DQ1T3) (io), B8 IO, LVDS33p (io), B9 IO, LVDS35p (io), B10 IO, LVDS38n (io), B11 IO, LVDS40n (io), B12 IO, LVDS42n (io), B13 IO, LVDS45n (io), B14 IO, DPCLK3 (DQS0T) (io), B15 IO, LVDS48n (DQ0T0) (io), B16 IO, LVDS50p (io), C4 IO, LVDS24p (DEV_CLRn) (io), C5 IO, LVDS27n (DQ1T4) (io), C6 IO, LVDS28p (io), C7 IO, LVDS30p (io), C8 IO, LVDS34p (io), C9 IO, LVDS36p (io), C10 IO, LVDS39n (io), C11 IO, LVDS41n (io), C12 IO, LVDS43p (DQ0T7) (io), C13 IO, LVDS44p (DQ0T5) (io), C14 IO, VREF0B2 (io), C15 IO, LVDS47n (DQ0T2) (io), C16 IO, LVDS50n (io), D5 IO, LVDS27p (DQ1T5) (io), D6 IO, LVDS29p (io), D7 IO, LVDS30n (io), D8 IO, LVDS34n (io), D9 IO, LVDS36n (DM1T) (io), D10 IO, LVDS39p (io), D11 IO, LVDS41p (io), D12 IO, LVDS43n (DQ0T6) (io), D13 IO, LVDS44n (DQ0T4) (io), D14 IO, LVDS47p (DQ0T3) (io), E6 IO, LVDS29n (io), E7 IO, LVDS32p (DQ1T1) (io), E8 IO, LVDS32n (DQ1T0) (io), E10 IO, VREF1B2 (io), E11 IO (io), E13 IO (io), F8 IO, LVDS25n (io), F9 IO, LVDS37p (io), F10 IO, LVDS46p (io), F11 IO, LVDS49p (io), G8 IO, LVDS25p (io), G9 IO, LVDS37n (io), G10 IO, LVDS46n (io), G11 IO, LVDS49n (io)
part C pins: C17 IO, LVDS51n (io), D15 IO, LVDS52p (io), D16 IO, LVDS52n (io), D17 IO, LVDS51p (io), D18 IO (DQ0R0) (io), E14 IO, VREF0B3 (io), E15 IO, LVDS53p (DQ0R1) (io), E16 IO, LVDS53n (DQ0R2) (io), E17 IO, DPCLK4 (DQS0R) (io), F12 IO, LVDS57p (io), F13 IO, LVDS55n (io), F14 IO, LVDS55p (io), F15 IO, LVDS54p (DQ0R3) (io), F16 IO, LVDS54n (io), F17 IO, LVDS56p (io), F18 IO, LVDS56n (io), G12 IO, LVDS57n (io), G13 IO, LVDS59n (DQ0R4) (io), G14 IO, LVDS59p (io), G15 IO, LVDS58n (io), G16 IO, LVDS58p (io), G17 IO, LVDS60p (DQ0R5) (io), G18 IO, LVDS60n (DQ0R6) (io), H13 IO, LVDS63p (DM0R) (io), H14 IO, LVDS62n (io), H15 IO, LVDS62p (io), H16 IO, LVDS61n (io), H17 IO, LVDS61p (io), H18 IO (DQ0R7) (io), J13 IO, LVDS63n (io), J14 IO, VREF1B3 (io), K15 IO, PLL2_OUTp (io), K16 IO, PLL2_OUTn (io), L13 IO, LVDS65p (io), L14 IO (io), L15 IO, LVDS64p (io), L16 IO, LVDS64n (DM1R) (io), L17 IO, LVDS66p (io), L18 IO, LVDS66n (io), M13 IO, LVDS65n (io), M14 IO, LVDS67n (DQ1R2) (io), M15 IO, LVDS67p (DQ1R1) (io), M16 IO (DQ1R0) (io), M17 IO, LVDS68p (DQ1R3) (io), M18 IO, LVDS68n (io), N12 IO, LVDS70p (io), N13 IO, LVDS70n (io), N14 IO, LVDS72p (DQ1R4) (io), N15 IO, LVDS69p (io), N16 IO, LVDS69n (io), N17 IO, LVDS71p (io), N18 IO, LVDS71n (io), P14 IO, LVDS72n (DQ1R5) (io), P15 IO, DPCLK5 (DQS1R) (io), P16 IO, VREF2B3 (io), P17 IO (DQ1R6) (io), R15 IO, LVDS73n (DQ1R7) (io), R16 IO, LVDS73p (io), R17 IO, LVDS74n (io), R18 IO, LVDS74p (io), T16 IO, LVDS75n (io), T17 IO, LVDS75p (io)
part D pins: M8 IO, LVDS101p (io), M9 IO, LVDS89p (io), M10 IO, LVDS80n (io), M11 IO, LVDS77n (io), N8 IO, LVDS101n (io), N9 IO, LVDS89n (io), N10 IO, LVDS80p (io), N11 IO, LVDS77p (io), P6 IO, LVDS97p (DQ1B4) (io), P7 IO, LVDS97n (io), P9 IO, VREF1B4 (io), P10 IO (io), P12 IO (io), P13 IO, VREF0B4 (io), R4 IO, DPCLK7 (DQS1B) (io), R5 IO, VREF2B4 (io), R6 IO, LVDS96n (io), R7 IO, LVDS94n (DQ1B0) (io), R8 IO, LVDS92n (io), R9 IO, LVDS90p (DM1B) (io), R10 IO, LVDS87n (io), R11 IO, LVDS86p (io), R12 IO, LVDS83n (DQ0B6) (io), R13 IO, LVDS81n (io), R14 IO, LVDS79n (DQ0B2) (io), T4 IO, LVDS100p (io), T5 IO, LVDS99p (DQ1B7) (io), T6 IO, LVDS96p (io), T7 IO, LVDS94p (DQ1B1) (io), T8 IO, LVDS92p (io), T9 IO, LVDS90n (io), T10 IO, LVDS87p (io), T11 IO, LVDS86n (io), T12 IO, LVDS83p (DQ0B7) (io), T13 IO, LVDS81p (io), T14 IO, LVDS79p (DQ0B3) (io), T15 IO, LVDS76n (io), U3 IO, LVDS102p (io), U4 IO, LVDS100n (io), U5 IO, LVDS99n (DQ1B6) (io), U6 IO, LVDS98n (DQ1B5) (io), U7 IO, LVDS95p (DQ1B3) (io), U8 IO, LVDS93p (io), U9 IO, LVDS91p (io), U10 IO, LVDS88p (io), U11 IO, LVDS85p (DM0B) (io), U12 IO, LVDS84n (io), U13 IO, LVDS82n (DQ0B4) (io), U14 IO, DPCLK6 (DQS0B) (io), U15 IO, LVDS78n (DQ0B0) (io), U16 IO, LVDS76p (io), V4 IO, LVDS102n (io), V6 IO, LVDS98p (io), V7 IO, LVDS95n (DQ1B2) (io), V8 IO, LVDS93n (io), V9 IO, LVDS91n (io), V10 IO, LVDS88n (io), V11 IO, LVDS85n (io), V12 IO, LVDS84p (io), V13 IO, LVDS82p (DQ0B5) (io), V15 IO, LVDS78p (DQ0B1) (io)
part E pins: H7 DATA0 (in), J2 nCONFIG (in), J7 nCE (in), J17 TDI (in), K2 nCEO (out), K3 MSEL0 (in), K7 MSEL1 (in), K13 TDO (out), K14 TMS (in), K17 CONF_DONE (io), K18 TCK (in), L1 DCLK (io), L12 nSTATUS (io)
part F pins: A2 VCCINT (power), A5 VCCIO2 (power), A14 VCCIO2 (power), A17 VCCINT (power), B1 VCCINT (power), B18 VCCINT (power), E1 VCCIO1 (power), E9 VCCIO2 (power), E12 VCCIO2 (power), E18 VCCIO3 (power), G7 VCCIO1 (power), H10 VCCINT (power), H12 VCCIO3 (power), J9 VCCINT (power), K10 VCCINT (power), L9 VCCINT (power), M7 VCCIO1 (power), M12 VCCIO3 (power), P1 VCCIO1 (power), P8 VCCIO4 (power), P11 VCCIO4 (power), P18 VCCIO3 (power), U1 VCCINT (power), U18 VCCINT (power), V2 VCCINT (power), V5 VCCIO4 (power), V14 VCCIO4 (power), V17 VCCINT (power)
part G pins: A1 GND (power), A3 GND (power), A16 GND (power), A18 GND (power), B2 GND (power), B17 GND (power), C1 GND (power), C18 GND (power), H8 GND (power), H9 GND (power), H11 GND (power), J8 GND (power), J10 GND (power), J11 GND (power), K8 GND (power), K9 GND (power), K11 GND (power), L8 GND (power), L10 GND (power), L11 GND (power), T1 GND (power), T18 GND (power), U2 GND (power), U17 GND (power), V1 GND (power), V3 GND (power), V16 GND (power), V18 GND (power)
part H pins: J5 VCCA_PLL1 (power), J6 GNDG_PLL1 (power), J12 VCCA_PLL2 (power), J18 GNDG_PLL2 (power), K1 GNDA_PLL1 (power), K12 GNDA_PLL2 (power)
part I pins: J3 CLK0, LVDSCLK1p (in), J4 CLK1, LVDSCLK1n (in), J15 CLK2, LVDSCLK2p (in), J16 CLK3, LVDSCLK2n (in)
part A text: BANK 1
part B text: BANK 2
part C text: BANK 3
part D text: BANK 4

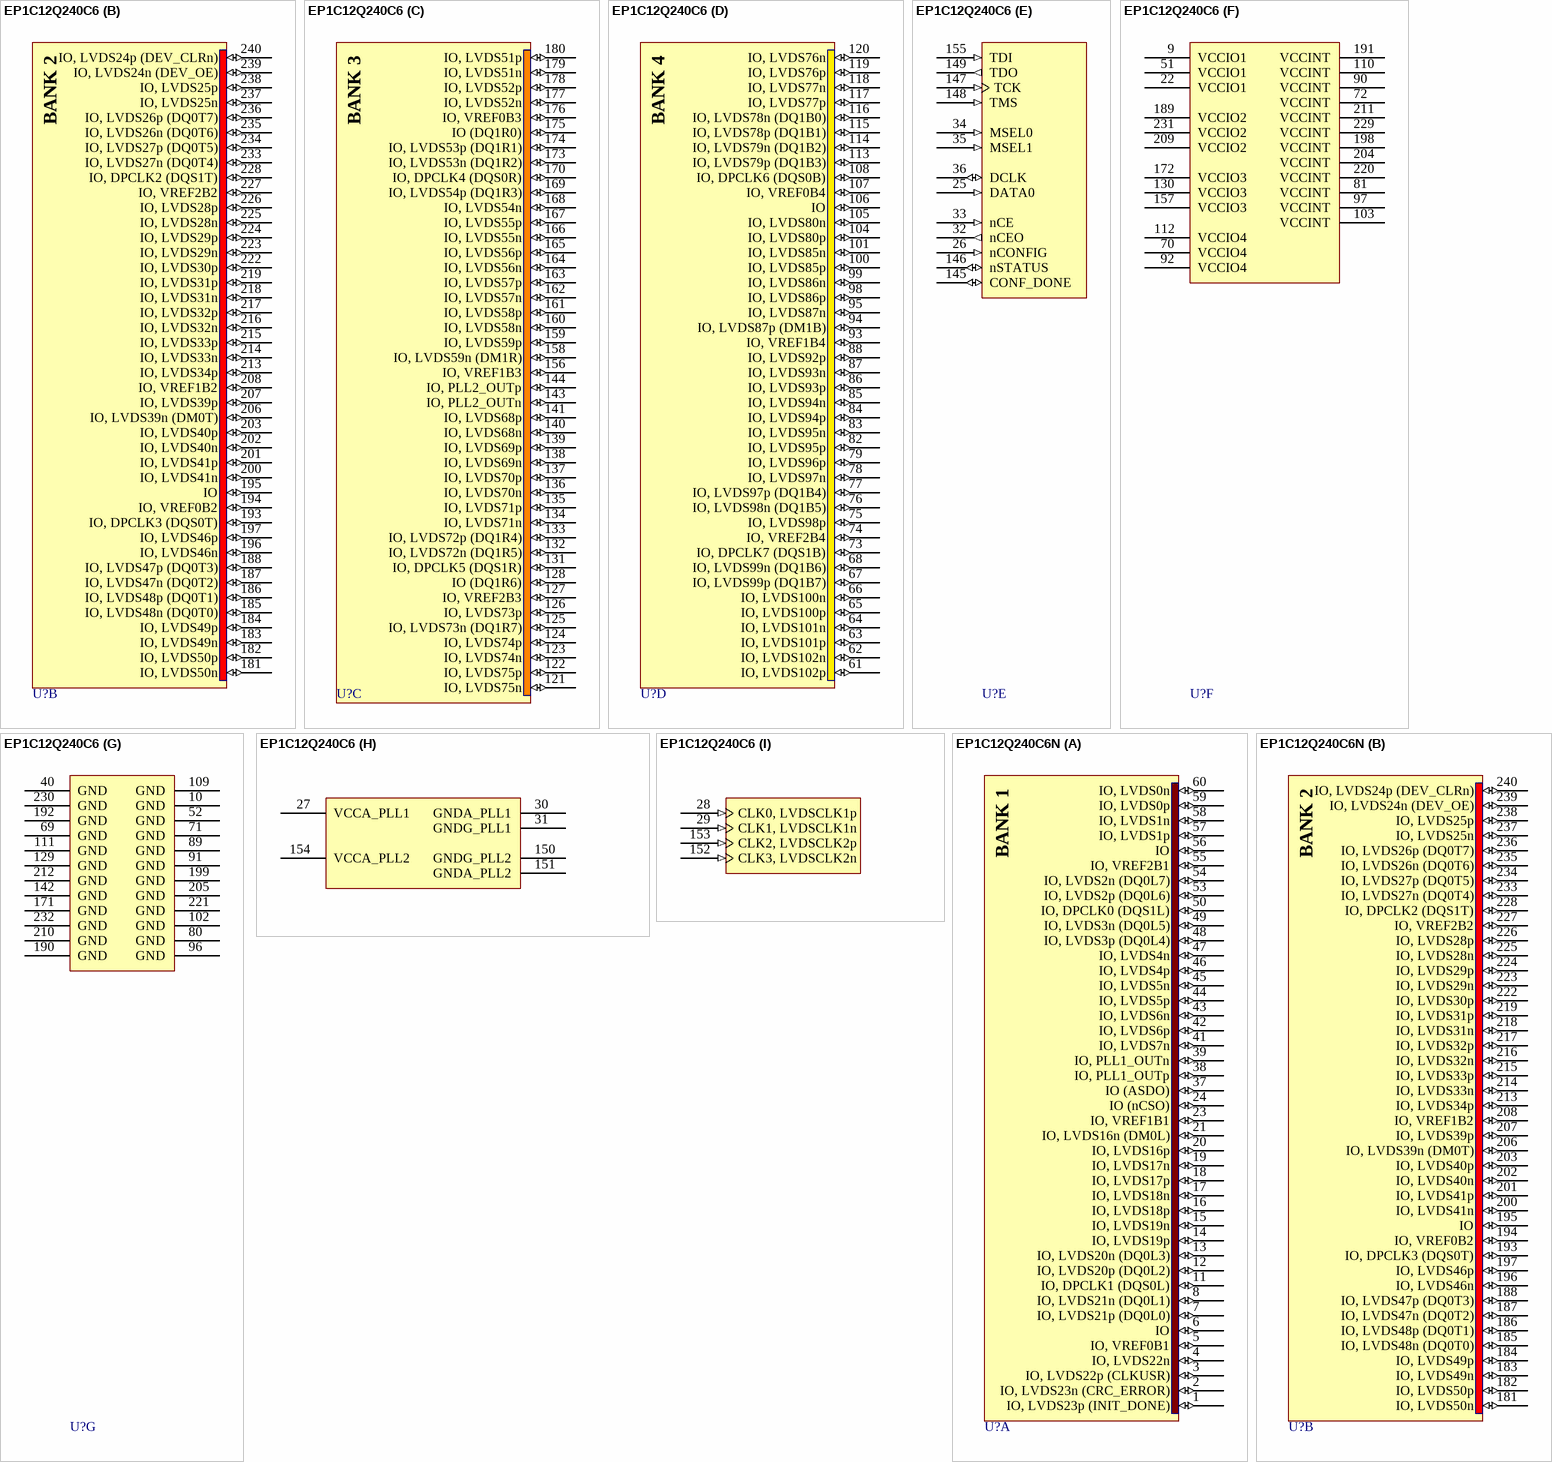
[diagram p109: symbols EP1C12Q240C6 to EP1C12Q240C6N]

## EP1C12Q240C6
designator U?
Cyclone Family, 1.5V FPGA, 173 I/O Pins, 2 x PLLs, Commercial Grade, Speed Grade 6; DatasheetVersion: ver2.4, May-2008; PackageVersion: ver15.4, Dec-2008; PackageReference: PQFP240; PackageDescription: 240-Pin Plastic Quad Flat Pack (PQFP240) - Wire Bond; Code_JEDEC: MS-029-GA; ComponentLink1Description: Manufacturer URL; ComponentLink1URL: http://www.altera.com/; ComponentLink2Description: Handbook; ComponentLink2URL: http://www.altera.com/literature/hb/cyc/cyc_c5v1.pdf; ComponentLink3Description: Package Specification; ComponentLink3URL: http://www.altera.com/literature/ds/dspkg.pdf
footprint PQFP240_N (Shrink QFP, 240-Leads, Body 32x32mm, Pitch 0.5mm, IPC Medium Density)
footprint PQFP240_L (Shrink QFP, 240-Leads, Body 32x32mm, Pitch 0.5mm, IPC High Density)
footprint PQFP240_M (Shrink QFP, 240-Leads, Body 32x32mm, Pitch 0.5mm, IPC Low Density)
part A pins: 1 IO, LVDS23p (INIT_DONE) (io), 2 IO, LVDS23n (CRC_ERROR) (io), 3 IO, LVDS22p (CLKUSR) (io), 4 IO, LVDS22n (io), 5 IO, VREF0B1 (io), 6 IO (io), 7 IO, LVDS21p (DQ0L0) (io), 8 IO, LVDS21n (DQ0L1) (io), 11 IO, DPCLK1 (DQS0L) (io), 12 IO, LVDS20p (DQ0L2) (io), 13 IO, LVDS20n (DQ0L3) (io), 14 IO, LVDS19p (io), 15 IO, LVDS19n (io), 16 IO, LVDS18p (io), 17 IO, LVDS18n (io), 18 IO, LVDS17p (io), 19 IO, LVDS17n (io), 20 IO, LVDS16p (io), 21 IO, LVDS16n (DM0L) (io), 23 IO, VREF1B1 (io), 24 IO (nCSO) (io), 37 IO (ASDO) (io), 38 IO, PLL1_OUTp (io), 39 IO, PLL1_OUTn (io), 41 IO, LVDS7n (io), 42 IO, LVDS6p (io), 43 IO, LVDS6n (io), 44 IO, LVDS5p (io), 45 IO, LVDS5n (io), 46 IO, LVDS4p (io), 47 IO, LVDS4n (io), 48 IO, LVDS3p (DQ0L4) (io), 49 IO, LVDS3n (DQ0L5) (io), 50 IO, DPCLK0 (DQS1L) (io), 53 IO, LVDS2p (DQ0L6) (io), 54 IO, LVDS2n (DQ0L7) (io), 55 IO, VREF2B1 (io), 56 IO (io), 57 IO, LVDS1p (io), 58 IO, LVDS1n (io), 59 IO, LVDS0p (io), 60 IO, LVDS0n (io)
part B pins: 181 IO, LVDS50n (io), 182 IO, LVDS50p (io), 183 IO, LVDS49n (io), 184 IO, LVDS49p (io), 185 IO, LVDS48n (DQ0T0) (io), 186 IO, LVDS48p (DQ0T1) (io), 187 IO, LVDS47n (DQ0T2) (io), 188 IO, LVDS47p (DQ0T3) (io), 193 IO, DPCLK3 (DQS0T) (io), 194 IO, VREF0B2 (io), 195 IO (io), 196 IO, LVDS46n (io), 197 IO, LVDS46p (io), 200 IO, LVDS41n (io), 201 IO, LVDS41p (io), 202 IO, LVDS40n (io), 203 IO, LVDS40p (io), 206 IO, LVDS39n (DM0T) (io), 207 IO, LVDS39p (io), 208 IO, VREF1B2 (io), 213 IO, LVDS34p (io), 214 IO, LVDS33n (io), 215 IO, LVDS33p (io), 216 IO, LVDS32n (io), 217 IO, LVDS32p (io), 218 IO, LVDS31n (io), 219 IO, LVDS31p (io), 222 IO, LVDS30p (io), 223 IO, LVDS29n (io), 224 IO, LVDS29p (io), 225 IO, LVDS28n (io), 226 IO, LVDS28p (io), 227 IO, VREF2B2 (io), 228 IO, DPCLK2 (DQS1T) (io), 233 IO, LVDS27n (DQ0T4) (io), 234 IO, LVDS27p (DQ0T5) (io), 235 IO, LVDS26n (DQ0T6) (io), 236 IO, LVDS26p (DQ0T7) (io), 237 IO, LVDS25n (io), 238 IO, LVDS25p (io), 239 IO, LVDS24n (DEV_OE) (io), 240 IO, LVDS24p (DEV_CLRn) (io)
part C pins: 121 IO, LVDS75n (io), 122 IO, LVDS75p (io), 123 IO, LVDS74n (io), 124 IO, LVDS74p (io), 125 IO, LVDS73n (DQ1R7) (io), 126 IO, LVDS73p (io), 127 IO, VREF2B3 (io), 128 IO (DQ1R6) (io), 131 IO, DPCLK5 (DQS1R) (io), 132 IO, LVDS72n (DQ1R5) (io), 133 IO, LVDS72p (DQ1R4) (io), 134 IO, LVDS71n (io), 135 IO, LVDS71p (io), 136 IO, LVDS70n (io), 137 IO, LVDS70p (io), 138 IO, LVDS69n (io), 139 IO, LVDS69p (io), 140 IO, LVDS68n (io), 141 IO, LVDS68p (io), 143 IO, PLL2_OUTn (io), 144 IO, PLL2_OUTp (io), 156 IO, VREF1B3 (io), 158 IO, LVDS59n (DM1R) (io), 159 IO, LVDS59p (io), 160 IO, LVDS58n (io), 161 IO, LVDS58p (io), 162 IO, LVDS57n (io), 163 IO, LVDS57p (io), 164 IO, LVDS56n (io), 165 IO, LVDS56p (io), 166 IO, LVDS55n (io), 167 IO, LVDS55p (io), 168 IO, LVDS54n (io), 169 IO, LVDS54p (DQ1R3) (io), 170 IO, DPCLK4 (DQS0R) (io), 173 IO, LVDS53n (DQ1R2) (io), 174 IO, LVDS53p (DQ1R1) (io), 175 IO (DQ1R0) (io), 176 IO, VREF0B3 (io), 177 IO, LVDS52n (io), 178 IO, LVDS52p (io), 179 IO, LVDS51n (io), 180 IO, LVDS51p (io)
part D pins: 61 IO, LVDS102p (io), 62 IO, LVDS102n (io), 63 IO, LVDS101p (io), 64 IO, LVDS101n (io), 65 IO, LVDS100p (io), 66 IO, LVDS100n (io), 67 IO, LVDS99p (DQ1B7) (io), 68 IO, LVDS99n (DQ1B6) (io), 73 IO, DPCLK7 (DQS1B) (io), 74 IO, VREF2B4 (io), 75 IO, LVDS98p (io), 76 IO, LVDS98n (DQ1B5) (io), 77 IO, LVDS97p (DQ1B4) (io), 78 IO, LVDS97n (io), 79 IO, LVDS96p (io), 82 IO, LVDS95p (io), 83 IO, LVDS95n (io), 84 IO, LVDS94p (io), 85 IO, LVDS94n (io), 86 IO, LVDS93p (io), 87 IO, LVDS93n (io), 88 IO, LVDS92p (io), 93 IO, VREF1B4 (io), 94 IO, LVDS87p (DM1B) (io), 95 IO, LVDS87n (io), 98 IO, LVDS86p (io), 99 IO, LVDS86n (io), 100 IO, LVDS85p (io), 101 IO, LVDS85n (io), 104 IO, LVDS80p (io), 105 IO, LVDS80n (io), 106 IO (io), 107 IO, VREF0B4 (io), 108 IO, DPCLK6 (DQS0B) (io), 113 IO, LVDS79p (DQ1B3) (io), 114 IO, LVDS79n (DQ1B2) (io), 115 IO, LVDS78p (DQ1B1) (io), 116 IO, LVDS78n (DQ1B0) (io), 117 IO, LVDS77p (io), 118 IO, LVDS77n (io), 119 IO, LVDS76p (io), 120 IO, LVDS76n (io)
part E pins: 25 DATA0 (in), 26 nCONFIG (in), 32 nCEO (out), 33 nCE (in), 34 MSEL0 (in), 35 MSEL1 (in), 36 DCLK (io), 145 CONF_DONE (io), 146 nSTATUS (io), 147 TCK (in), 148 TMS (in), 149 TDO (out), 155 TDI (in)
part F pins: 9 VCCIO1 (power), 22 VCCIO1 (power), 51 VCCIO1 (power), 70 VCCIO4 (power), 72 VCCINT (power), 81 VCCINT (power), 90 VCCINT (power), 92 VCCIO4 (power), 97 VCCINT (power), 103 VCCINT (power), 110 VCCINT (power), 112 VCCIO4 (power), 130 VCCIO3 (power), 157 VCCIO3 (power), 172 VCCIO3 (power), 189 VCCIO2 (power), 191 VCCINT (power), 198 VCCINT (power), 204 VCCINT (power), 209 VCCIO2 (power), 211 VCCINT (power), 220 VCCINT (power), 229 VCCINT (power), 231 VCCIO2 (power)
part G pins: 10 GND (power), 40 GND (power), 52 GND (power), 69 GND (power), 71 GND (power), 80 GND (power), 89 GND (power), 91 GND (power), 96 GND (power), 102 GND (power), 109 GND (power), 111 GND (power), 129 GND (power), 142 GND (power), 171 GND (power), 190 GND (power), 192 GND (power), 199 GND (power), 205 GND (power), 210 GND (power), 212 GND (power), 221 GND (power), 230 GND (power), 232 GND (power)
part H pins: 27 VCCA_PLL1 (power), 30 GNDA_PLL1 (power), 31 GNDG_PLL1 (power), 150 GNDG_PLL2 (power), 151 GNDA_PLL2 (power), 154 VCCA_PLL2 (power)
part I pins: 28 CLK0, LVDSCLK1p (in), 29 CLK1, LVDSCLK1n (in), 152 CLK3, LVDSCLK2n (in), 153 CLK2, LVDSCLK2p (in)
part A text: BANK 1
part B text: BANK 2
part C text: BANK 3
part D text: BANK 4

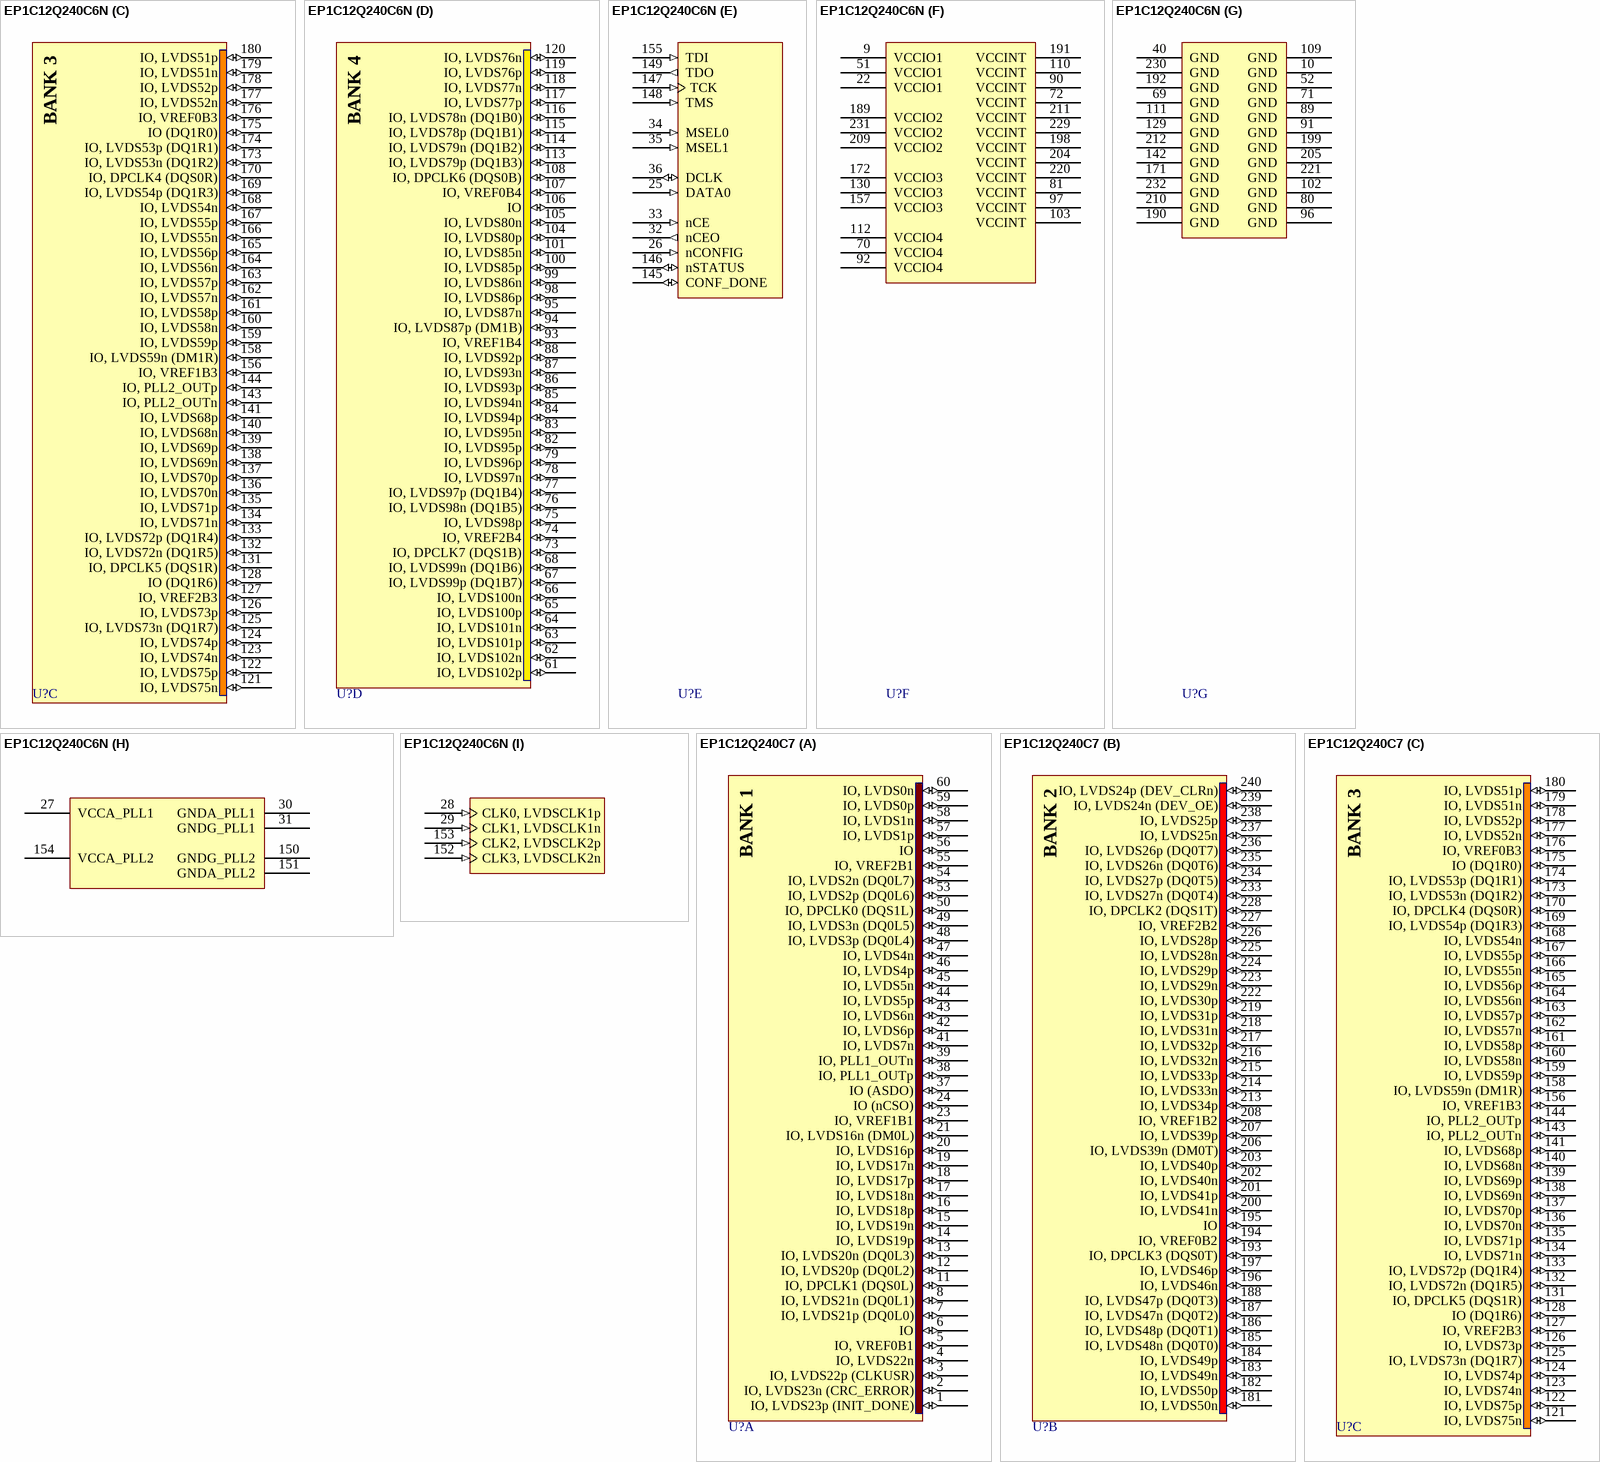
[diagram p110: symbols EP1C12Q240C6N to EP1C12Q240C7]

## EP1C12Q240C6N
designator U?
Cyclone Family, 1.5V FPGA, 173 I/O Pins, 2 x PLLs, Commercial Grade, Speed Grade 6, Pb-Free; DatasheetVersion: ver2.4, May-2008; PackageVersion: ver15.4, Dec-2008; PackageReference: PQFP240; PackageDescription: 240-Pin Plastic Quad Flat Pack (PQFP240) - Wire Bond; Code_JEDEC: MS-029-GA; ComponentLink1Description: Manufacturer URL; ComponentLink1URL: http://www.altera.com/; ComponentLink2Description: Handbook; ComponentLink2URL: http://www.altera.com/literature/hb/cyc/cyc_c5v1.pdf; ComponentLink3Description: Package Specification; ComponentLink3URL: http://www.altera.com/literature/ds/dspkg.pdf
footprint PQFP240_N (Shrink QFP, 240-Leads, Body 32x32mm, Pitch 0.5mm, IPC Medium Density)
footprint PQFP240_L (Shrink QFP, 240-Leads, Body 32x32mm, Pitch 0.5mm, IPC High Density)
footprint PQFP240_M (Shrink QFP, 240-Leads, Body 32x32mm, Pitch 0.5mm, IPC Low Density)
part A pins: 1 IO, LVDS23p (INIT_DONE) (io), 2 IO, LVDS23n (CRC_ERROR) (io), 3 IO, LVDS22p (CLKUSR) (io), 4 IO, LVDS22n (io), 5 IO, VREF0B1 (io), 6 IO (io), 7 IO, LVDS21p (DQ0L0) (io), 8 IO, LVDS21n (DQ0L1) (io), 11 IO, DPCLK1 (DQS0L) (io), 12 IO, LVDS20p (DQ0L2) (io), 13 IO, LVDS20n (DQ0L3) (io), 14 IO, LVDS19p (io), 15 IO, LVDS19n (io), 16 IO, LVDS18p (io), 17 IO, LVDS18n (io), 18 IO, LVDS17p (io), 19 IO, LVDS17n (io), 20 IO, LVDS16p (io), 21 IO, LVDS16n (DM0L) (io), 23 IO, VREF1B1 (io), 24 IO (nCSO) (io), 37 IO (ASDO) (io), 38 IO, PLL1_OUTp (io), 39 IO, PLL1_OUTn (io), 41 IO, LVDS7n (io), 42 IO, LVDS6p (io), 43 IO, LVDS6n (io), 44 IO, LVDS5p (io), 45 IO, LVDS5n (io), 46 IO, LVDS4p (io), 47 IO, LVDS4n (io), 48 IO, LVDS3p (DQ0L4) (io), 49 IO, LVDS3n (DQ0L5) (io), 50 IO, DPCLK0 (DQS1L) (io), 53 IO, LVDS2p (DQ0L6) (io), 54 IO, LVDS2n (DQ0L7) (io), 55 IO, VREF2B1 (io), 56 IO (io), 57 IO, LVDS1p (io), 58 IO, LVDS1n (io), 59 IO, LVDS0p (io), 60 IO, LVDS0n (io)
part B pins: 181 IO, LVDS50n (io), 182 IO, LVDS50p (io), 183 IO, LVDS49n (io), 184 IO, LVDS49p (io), 185 IO, LVDS48n (DQ0T0) (io), 186 IO, LVDS48p (DQ0T1) (io), 187 IO, LVDS47n (DQ0T2) (io), 188 IO, LVDS47p (DQ0T3) (io), 193 IO, DPCLK3 (DQS0T) (io), 194 IO, VREF0B2 (io), 195 IO (io), 196 IO, LVDS46n (io), 197 IO, LVDS46p (io), 200 IO, LVDS41n (io), 201 IO, LVDS41p (io), 202 IO, LVDS40n (io), 203 IO, LVDS40p (io), 206 IO, LVDS39n (DM0T) (io), 207 IO, LVDS39p (io), 208 IO, VREF1B2 (io), 213 IO, LVDS34p (io), 214 IO, LVDS33n (io), 215 IO, LVDS33p (io), 216 IO, LVDS32n (io), 217 IO, LVDS32p (io), 218 IO, LVDS31n (io), 219 IO, LVDS31p (io), 222 IO, LVDS30p (io), 223 IO, LVDS29n (io), 224 IO, LVDS29p (io), 225 IO, LVDS28n (io), 226 IO, LVDS28p (io), 227 IO, VREF2B2 (io), 228 IO, DPCLK2 (DQS1T) (io), 233 IO, LVDS27n (DQ0T4) (io), 234 IO, LVDS27p (DQ0T5) (io), 235 IO, LVDS26n (DQ0T6) (io), 236 IO, LVDS26p (DQ0T7) (io), 237 IO, LVDS25n (io), 238 IO, LVDS25p (io), 239 IO, LVDS24n (DEV_OE) (io), 240 IO, LVDS24p (DEV_CLRn) (io)
part C pins: 121 IO, LVDS75n (io), 122 IO, LVDS75p (io), 123 IO, LVDS74n (io), 124 IO, LVDS74p (io), 125 IO, LVDS73n (DQ1R7) (io), 126 IO, LVDS73p (io), 127 IO, VREF2B3 (io), 128 IO (DQ1R6) (io), 131 IO, DPCLK5 (DQS1R) (io), 132 IO, LVDS72n (DQ1R5) (io), 133 IO, LVDS72p (DQ1R4) (io), 134 IO, LVDS71n (io), 135 IO, LVDS71p (io), 136 IO, LVDS70n (io), 137 IO, LVDS70p (io), 138 IO, LVDS69n (io), 139 IO, LVDS69p (io), 140 IO, LVDS68n (io), 141 IO, LVDS68p (io), 143 IO, PLL2_OUTn (io), 144 IO, PLL2_OUTp (io), 156 IO, VREF1B3 (io), 158 IO, LVDS59n (DM1R) (io), 159 IO, LVDS59p (io), 160 IO, LVDS58n (io), 161 IO, LVDS58p (io), 162 IO, LVDS57n (io), 163 IO, LVDS57p (io), 164 IO, LVDS56n (io), 165 IO, LVDS56p (io), 166 IO, LVDS55n (io), 167 IO, LVDS55p (io), 168 IO, LVDS54n (io), 169 IO, LVDS54p (DQ1R3) (io), 170 IO, DPCLK4 (DQS0R) (io), 173 IO, LVDS53n (DQ1R2) (io), 174 IO, LVDS53p (DQ1R1) (io), 175 IO (DQ1R0) (io), 176 IO, VREF0B3 (io), 177 IO, LVDS52n (io), 178 IO, LVDS52p (io), 179 IO, LVDS51n (io), 180 IO, LVDS51p (io)
part D pins: 61 IO, LVDS102p (io), 62 IO, LVDS102n (io), 63 IO, LVDS101p (io), 64 IO, LVDS101n (io), 65 IO, LVDS100p (io), 66 IO, LVDS100n (io), 67 IO, LVDS99p (DQ1B7) (io), 68 IO, LVDS99n (DQ1B6) (io), 73 IO, DPCLK7 (DQS1B) (io), 74 IO, VREF2B4 (io), 75 IO, LVDS98p (io), 76 IO, LVDS98n (DQ1B5) (io), 77 IO, LVDS97p (DQ1B4) (io), 78 IO, LVDS97n (io), 79 IO, LVDS96p (io), 82 IO, LVDS95p (io), 83 IO, LVDS95n (io), 84 IO, LVDS94p (io), 85 IO, LVDS94n (io), 86 IO, LVDS93p (io), 87 IO, LVDS93n (io), 88 IO, LVDS92p (io), 93 IO, VREF1B4 (io), 94 IO, LVDS87p (DM1B) (io), 95 IO, LVDS87n (io), 98 IO, LVDS86p (io), 99 IO, LVDS86n (io), 100 IO, LVDS85p (io), 101 IO, LVDS85n (io), 104 IO, LVDS80p (io), 105 IO, LVDS80n (io), 106 IO (io), 107 IO, VREF0B4 (io), 108 IO, DPCLK6 (DQS0B) (io), 113 IO, LVDS79p (DQ1B3) (io), 114 IO, LVDS79n (DQ1B2) (io), 115 IO, LVDS78p (DQ1B1) (io), 116 IO, LVDS78n (DQ1B0) (io), 117 IO, LVDS77p (io), 118 IO, LVDS77n (io), 119 IO, LVDS76p (io), 120 IO, LVDS76n (io)
part E pins: 25 DATA0 (in), 26 nCONFIG (in), 32 nCEO (out), 33 nCE (in), 34 MSEL0 (in), 35 MSEL1 (in), 36 DCLK (io), 145 CONF_DONE (io), 146 nSTATUS (io), 147 TCK (in), 148 TMS (in), 149 TDO (out), 155 TDI (in)
part F pins: 9 VCCIO1 (power), 22 VCCIO1 (power), 51 VCCIO1 (power), 70 VCCIO4 (power), 72 VCCINT (power), 81 VCCINT (power), 90 VCCINT (power), 92 VCCIO4 (power), 97 VCCINT (power), 103 VCCINT (power), 110 VCCINT (power), 112 VCCIO4 (power), 130 VCCIO3 (power), 157 VCCIO3 (power), 172 VCCIO3 (power), 189 VCCIO2 (power), 191 VCCINT (power), 198 VCCINT (power), 204 VCCINT (power), 209 VCCIO2 (power), 211 VCCINT (power), 220 VCCINT (power), 229 VCCINT (power), 231 VCCIO2 (power)
part G pins: 10 GND (power), 40 GND (power), 52 GND (power), 69 GND (power), 71 GND (power), 80 GND (power), 89 GND (power), 91 GND (power), 96 GND (power), 102 GND (power), 109 GND (power), 111 GND (power), 129 GND (power), 142 GND (power), 171 GND (power), 190 GND (power), 192 GND (power), 199 GND (power), 205 GND (power), 210 GND (power), 212 GND (power), 221 GND (power), 230 GND (power), 232 GND (power)
part H pins: 27 VCCA_PLL1 (power), 30 GNDA_PLL1 (power), 31 GNDG_PLL1 (power), 150 GNDG_PLL2 (power), 151 GNDA_PLL2 (power), 154 VCCA_PLL2 (power)
part I pins: 28 CLK0, LVDSCLK1p (in), 29 CLK1, LVDSCLK1n (in), 152 CLK3, LVDSCLK2n (in), 153 CLK2, LVDSCLK2p (in)
part A text: BANK 1
part B text: BANK 2
part C text: BANK 3
part D text: BANK 4

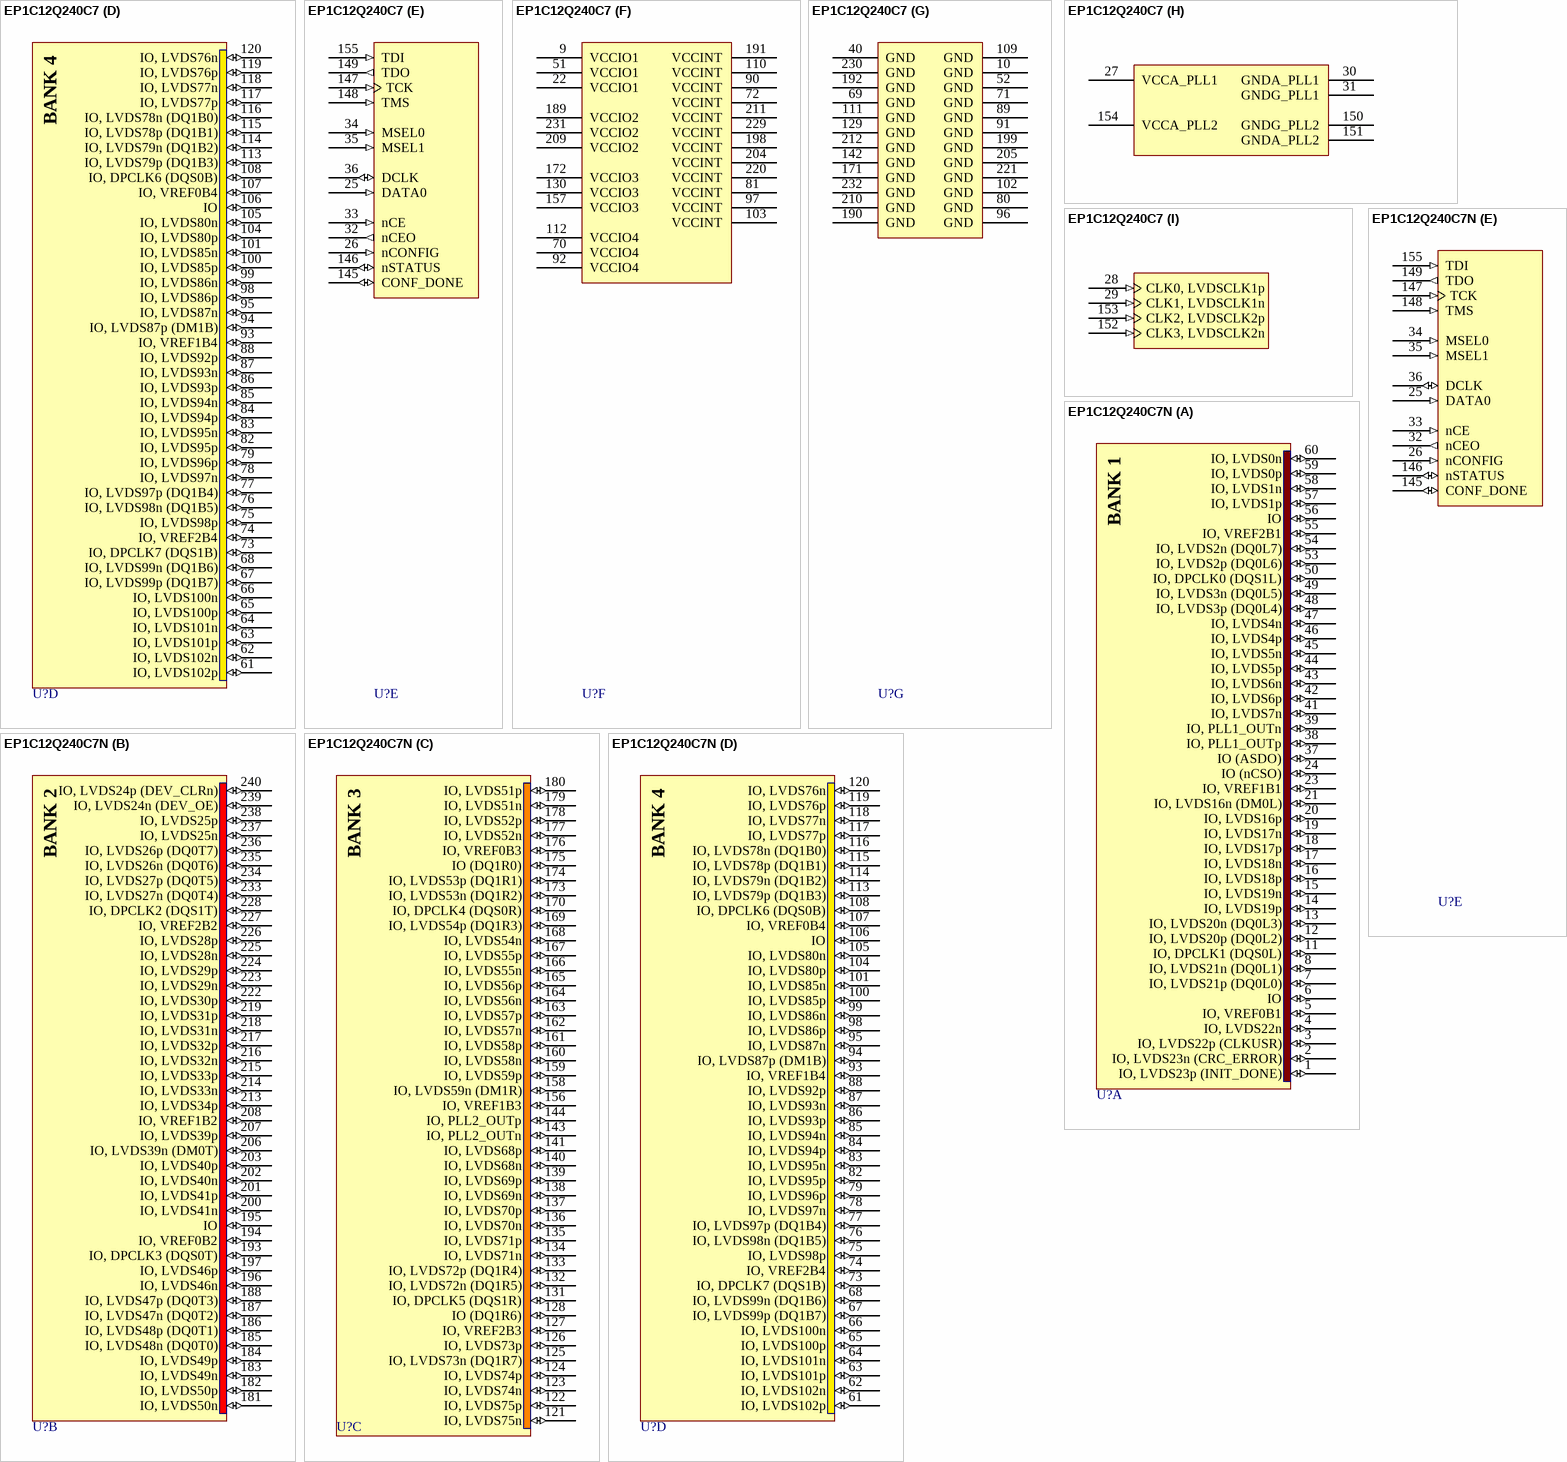
[diagram p111: symbols EP1C12Q240C7 to EP1C12Q240C7N]